# Altium integrated library Altera Cyclone.IntLib: 144 symbols (part 2 of 23)
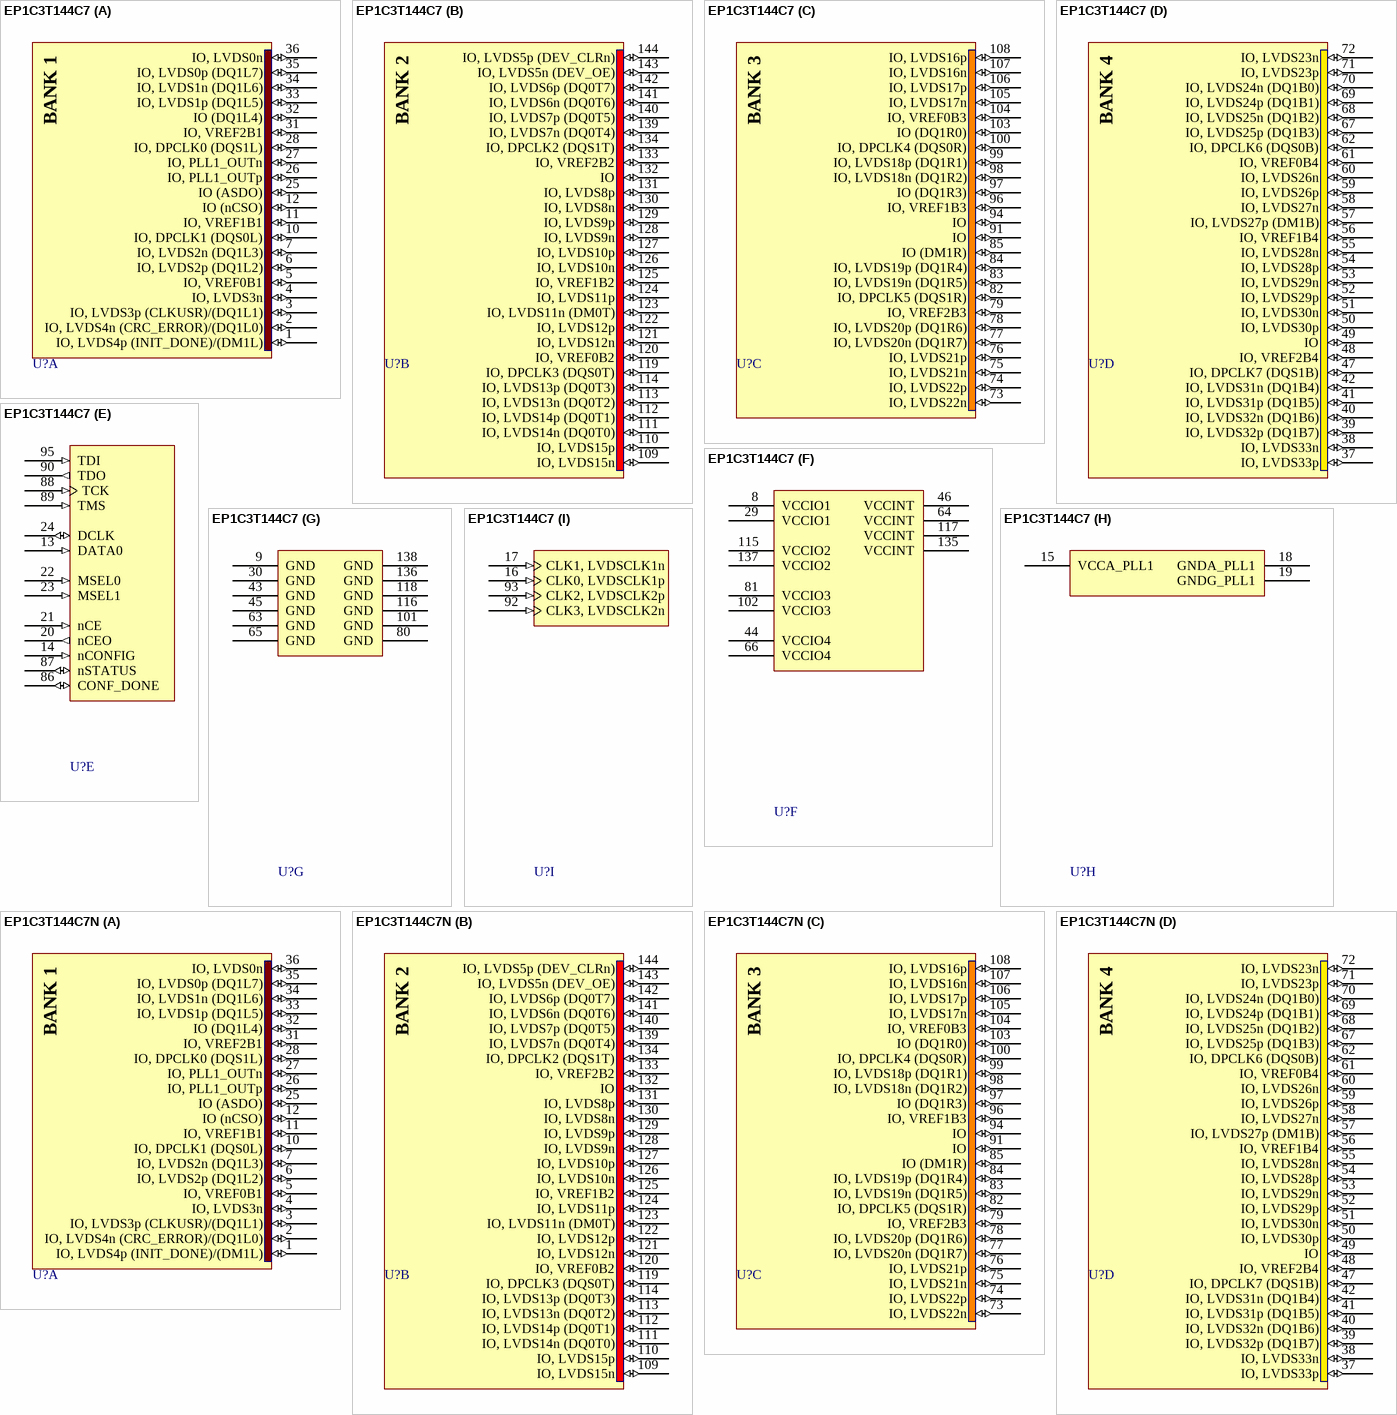
[diagram p154: symbols EP1C3T144C7 to EP1C3T144C7N]

## EP1C3T144C7
designator U?
Cyclone Family, 1.5V FPGA, 104 I/O Pins, 1 x PLL, Commercial Grade, Speed Grade 7; Published: 17-Sep-2003; LatestRevisionDate: 13-Apr-2006; LatestRevisionNote: Pin 2 name fix, IPC-7351 Footprint Added.; DatasheetVersion: May-2008; PackageVersion: ver15.1, May-2008; PackageReference: TQFP144; Publisher: Altium Limited; PackageDescription: 144-Pin Plastic Thin Quad Flat Pack (TQFP144) - Wire Bond; Code_JEDEC: MS-026-BFB; ComponentLink1Description: Manufacturer Link; ComponentLink1URL: http://www.altera.com/products/devices/cyclone/cyc-index.jsp; ComponentLink2Description: Handbook; ComponentLink2URL: http://www.altera.com/literature/hb/cyc/cyc_c5v1.pdf; ComponentLink3Description: Packaging Specification; ComponentLink3URL: http://www.altera.com/literature/ds/dspkg.pdf
footprint TQFP144_N (Thin QFP, 144-Leads, Body 20x20mm, Pitch 0.5mm, IPC Medium Density)
footprint TQFP144_L (Thin QFP, 144-Leads, Body 20x20mm, Pitch 0.5mm, IPC High Density)
footprint TQFP144_M (Thin QFP, 144-Leads, Body 20x20mm, Pitch 0.5mm, IPC Low Density)
3D model EP1C3-TQFP144 (144-Pin Plastic Thin Quad Flat Pack (TQFP144) - Wire Bond)
signal-integrity model 1c (Cyclone)
part A pins: 1 IO, LVDS4p (INIT_DONE)/(DM1L) (io), 2 IO, LVDS4n (CRC_ERROR)/(DQ1L0) (io), 3 IO, LVDS3p (CLKUSR)/(DQ1L1) (io), 4 IO, LVDS3n (io), 5 IO, VREF0B1 (io), 6 IO, LVDS2p (DQ1L2) (io), 7 IO, LVDS2n (DQ1L3) (io), 10 IO, DPCLK1 (DQS0L) (io), 11 IO, VREF1B1 (io), 12 IO (nCSO) (io), 25 IO (ASDO) (io), 26 IO, PLL1_OUTp (io), 27 IO, PLL1_OUTn (io), 28 IO, DPCLK0 (DQS1L) (io), 31 IO, VREF2B1 (io), 32 IO (DQ1L4) (io), 33 IO, LVDS1p (DQ1L5) (io), 34 IO, LVDS1n (DQ1L6) (io), 35 IO, LVDS0p (DQ1L7) (io), 36 IO, LVDS0n (io)
part B pins: 109 IO, LVDS15n (io), 110 IO, LVDS15p (io), 111 IO, LVDS14n (DQ0T0) (io), 112 IO, LVDS14p (DQ0T1) (io), 113 IO, LVDS13n (DQ0T2) (io), 114 IO, LVDS13p (DQ0T3) (io), 119 IO, DPCLK3 (DQS0T) (io), 120 IO, VREF0B2 (io), 121 IO, LVDS12n (io), 122 IO, LVDS12p (io), 123 IO, LVDS11n (DM0T) (io), 124 IO, LVDS11p (io), 125 IO, VREF1B2 (io), 126 IO, LVDS10n (io), 127 IO, LVDS10p (io), 128 IO, LVDS9n (io), 129 IO, LVDS9p (io), 130 IO, LVDS8n (io), 131 IO, LVDS8p (io), 132 IO (io), 133 IO, VREF2B2 (io), 134 IO, DPCLK2 (DQS1T) (io), 139 IO, LVDS7n (DQ0T4) (io), 140 IO, LVDS7p (DQ0T5) (io), 141 IO, LVDS6n (DQ0T6) (io), 142 IO, LVDS6p (DQ0T7) (io), 143 IO, LVDS5n (DEV_OE) (io), 144 IO, LVDS5p (DEV_CLRn) (io)
part C pins: 73 IO, LVDS22n (io), 74 IO, LVDS22p (io), 75 IO, LVDS21n (io), 76 IO, LVDS21p (io), 77 IO, LVDS20n (DQ1R7) (io), 78 IO, LVDS20p (DQ1R6) (io), 79 IO, VREF2B3 (io), 82 IO, DPCLK5 (DQS1R) (io), 83 IO, LVDS19n (DQ1R5) (io), 84 IO, LVDS19p (DQ1R4) (io), 85 IO (DM1R) (io), 91 IO (io), 94 IO (io), 96 IO, VREF1B3 (io), 97 IO (DQ1R3) (io), 98 IO, LVDS18n (DQ1R2) (io), 99 IO, LVDS18p (DQ1R1) (io), 100 IO, DPCLK4 (DQS0R) (io), 103 IO (DQ1R0) (io), 104 IO, VREF0B3 (io), 105 IO, LVDS17n (io), 106 IO, LVDS17p (io), 107 IO, LVDS16n (io), 108 IO, LVDS16p (io)
part D pins: 37 IO, LVDS33p (io), 38 IO, LVDS33n (io), 39 IO, LVDS32p (DQ1B7) (io), 40 IO, LVDS32n (DQ1B6) (io), 41 IO, LVDS31p (DQ1B5) (io), 42 IO, LVDS31n (DQ1B4) (io), 47 IO, DPCLK7 (DQS1B) (io), 48 IO, VREF2B4 (io), 49 IO (io), 50 IO, LVDS30p (io), 51 IO, LVDS30n (io), 52 IO, LVDS29p (io), 53 IO, LVDS29n (io), 54 IO, LVDS28p (io), 55 IO, LVDS28n (io), 56 IO, VREF1B4 (io), 57 IO, LVDS27p (DM1B) (io), 58 IO, LVDS27n (io), 59 IO, LVDS26p (io), 60 IO, LVDS26n (io), 61 IO, VREF0B4 (io), 62 IO, DPCLK6 (DQS0B) (io), 67 IO, LVDS25p (DQ1B3) (io), 68 IO, LVDS25n (DQ1B2) (io), 69 IO, LVDS24p (DQ1B1) (io), 70 IO, LVDS24n (DQ1B0) (io), 71 IO, LVDS23p (io), 72 IO, LVDS23n (io)
part E pins: 13 DATA0 (in), 14 nCONFIG (in), 20 nCEO (out), 21 nCE (in), 22 MSEL0 (in), 23 MSEL1 (in), 24 DCLK (io), 86 CONF_DONE (io), 87 nSTATUS (io), 88 TCK (in), 89 TMS (in), 90 TDO (out), 95 TDI (in)
part F pins: 8 VCCIO1 (power), 29 VCCIO1 (power), 44 VCCIO4 (power), 46 VCCINT (power), 64 VCCINT (power), 66 VCCIO4 (power), 81 VCCIO3 (power), 102 VCCIO3 (power), 115 VCCIO2 (power), 117 VCCINT (power), 135 VCCINT (power), 137 VCCIO2 (power)
part G pins: 9 GND (power), 30 GND (power), 43 GND (power), 45 GND (power), 63 GND (power), 65 GND (power), 80 GND (power), 101 GND (power), 116 GND (power), 118 GND (power), 136 GND (power), 138 GND (power)
part H pins: 15 VCCA_PLL1 (power), 18 GNDA_PLL1 (power), 19 GNDG_PLL1 (power)
part I pins: 16 CLK0, LVDSCLK1p (in), 17 CLK1, LVDSCLK1n (in), 92 CLK3, LVDSCLK2n (in), 93 CLK2, LVDSCLK2p (in)
part A text: BANK 1
part B text: BANK 2
part C text: BANK 3
part D text: BANK 4

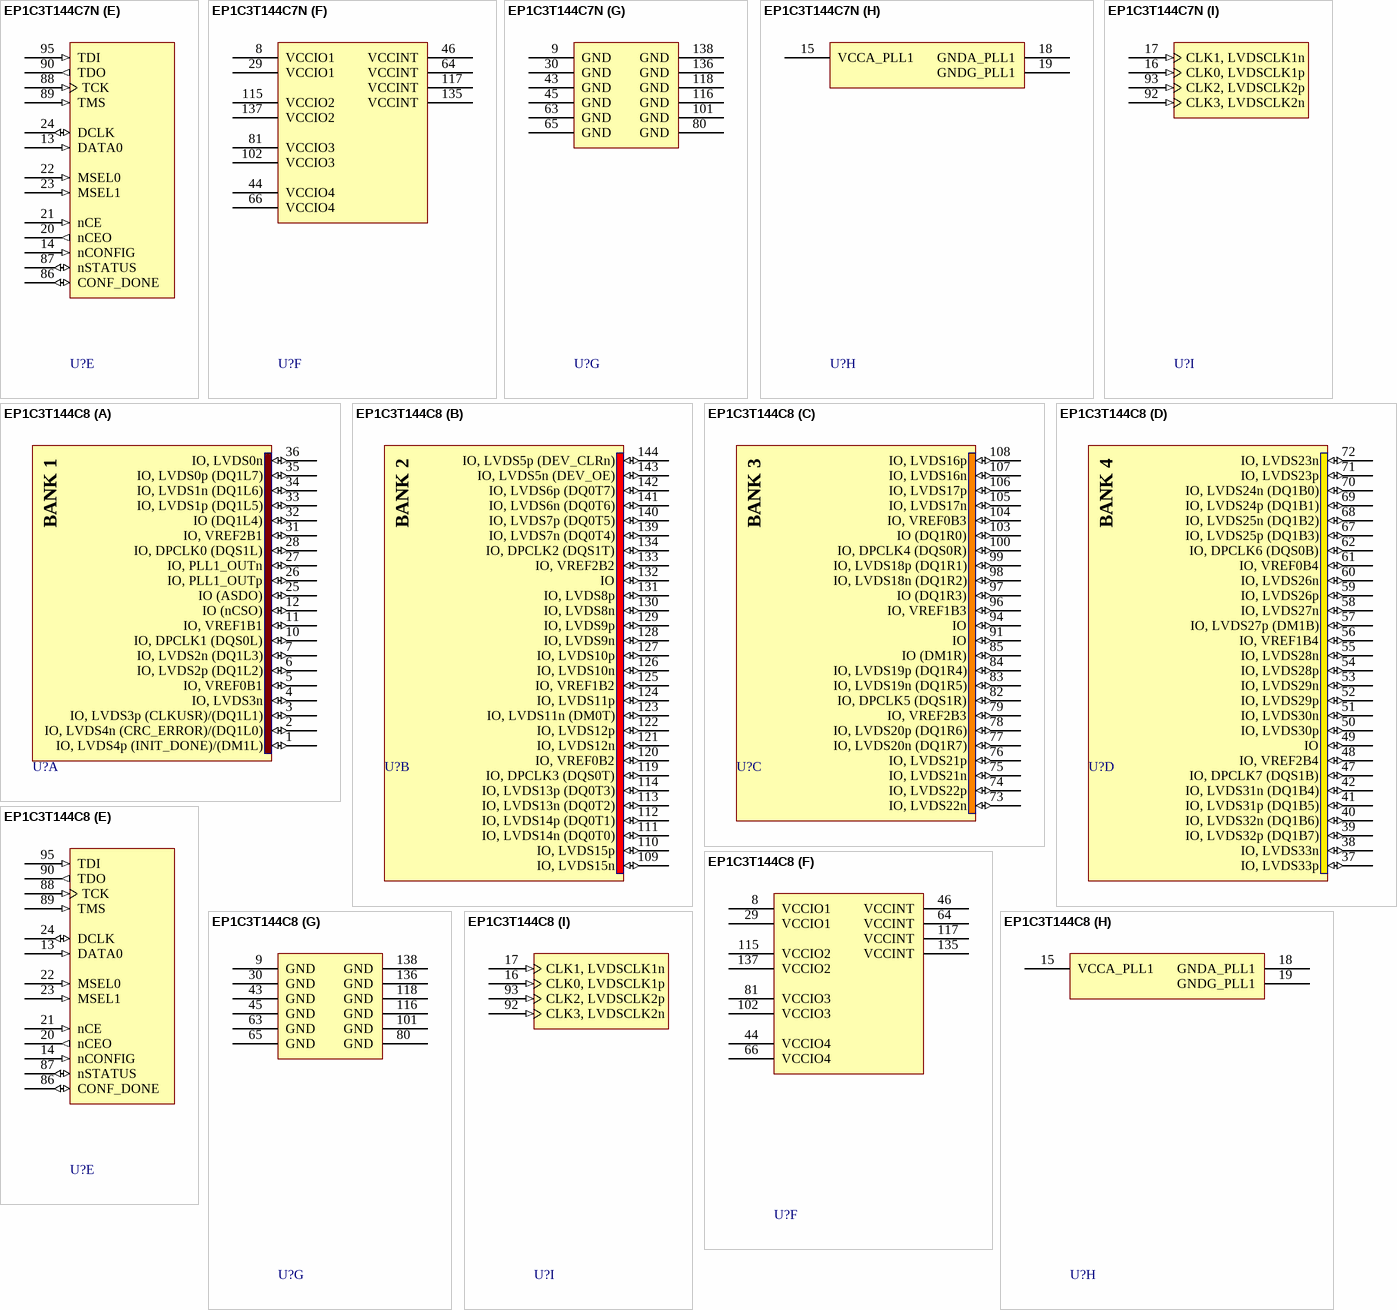
[diagram p7: symbols EP1C3T144C7N to EP1C3T144C8]

## EP1C3T144C7N
designator U?
Cyclone Family, 1.5V FPGA, 104 I/O Pins, 1 x PLL, Commercial Grade, Speed Grade 7, Pb-Free; Published: 4-Mar-2005; LatestRevisionDate: 13-Apr-2006; LatestRevisionNote: Pin 2 name fix, IPC-7351 Footprint Added.; DatasheetVersion: May-2008; PackageVersion: ver15.1, May-2008; PackageReference: TQFP144; Publisher: Altium Limited; PackageDescription: 144-Pin Plastic Thin Quad Flat Pack (TQFP144) - Wire Bond; Code_JEDEC: MS-026-BFB; ComponentLink1Description: Manufacturer Link; ComponentLink1URL: http://www.altera.com/products/devices/cyclone/cyc-index.jsp; ComponentLink2Description: Handbook; ComponentLink2URL: http://www.altera.com/literature/hb/cyc/cyc_c5v1.pdf; ComponentLink3Description: Packaging Specification; ComponentLink3URL: http://www.altera.com/literature/ds/dspkg.pdf
footprint TQFP144_N (Thin QFP, 144-Leads, Body 20x20mm, Pitch 0.5mm, IPC Medium Density)
footprint TQFP144_L (Thin QFP, 144-Leads, Body 20x20mm, Pitch 0.5mm, IPC High Density)
footprint TQFP144_M (Thin QFP, 144-Leads, Body 20x20mm, Pitch 0.5mm, IPC Low Density)
3D model EP1C3-TQFP144 (144-Pin Plastic Thin Quad Flat Pack (TQFP144) - Wire Bond)
signal-integrity model 1c (Cyclone)
part A pins: 1 IO, LVDS4p (INIT_DONE)/(DM1L) (io), 2 IO, LVDS4n (CRC_ERROR)/(DQ1L0) (io), 3 IO, LVDS3p (CLKUSR)/(DQ1L1) (io), 4 IO, LVDS3n (io), 5 IO, VREF0B1 (io), 6 IO, LVDS2p (DQ1L2) (io), 7 IO, LVDS2n (DQ1L3) (io), 10 IO, DPCLK1 (DQS0L) (io), 11 IO, VREF1B1 (io), 12 IO (nCSO) (io), 25 IO (ASDO) (io), 26 IO, PLL1_OUTp (io), 27 IO, PLL1_OUTn (io), 28 IO, DPCLK0 (DQS1L) (io), 31 IO, VREF2B1 (io), 32 IO (DQ1L4) (io), 33 IO, LVDS1p (DQ1L5) (io), 34 IO, LVDS1n (DQ1L6) (io), 35 IO, LVDS0p (DQ1L7) (io), 36 IO, LVDS0n (io)
part B pins: 109 IO, LVDS15n (io), 110 IO, LVDS15p (io), 111 IO, LVDS14n (DQ0T0) (io), 112 IO, LVDS14p (DQ0T1) (io), 113 IO, LVDS13n (DQ0T2) (io), 114 IO, LVDS13p (DQ0T3) (io), 119 IO, DPCLK3 (DQS0T) (io), 120 IO, VREF0B2 (io), 121 IO, LVDS12n (io), 122 IO, LVDS12p (io), 123 IO, LVDS11n (DM0T) (io), 124 IO, LVDS11p (io), 125 IO, VREF1B2 (io), 126 IO, LVDS10n (io), 127 IO, LVDS10p (io), 128 IO, LVDS9n (io), 129 IO, LVDS9p (io), 130 IO, LVDS8n (io), 131 IO, LVDS8p (io), 132 IO (io), 133 IO, VREF2B2 (io), 134 IO, DPCLK2 (DQS1T) (io), 139 IO, LVDS7n (DQ0T4) (io), 140 IO, LVDS7p (DQ0T5) (io), 141 IO, LVDS6n (DQ0T6) (io), 142 IO, LVDS6p (DQ0T7) (io), 143 IO, LVDS5n (DEV_OE) (io), 144 IO, LVDS5p (DEV_CLRn) (io)
part C pins: 73 IO, LVDS22n (io), 74 IO, LVDS22p (io), 75 IO, LVDS21n (io), 76 IO, LVDS21p (io), 77 IO, LVDS20n (DQ1R7) (io), 78 IO, LVDS20p (DQ1R6) (io), 79 IO, VREF2B3 (io), 82 IO, DPCLK5 (DQS1R) (io), 83 IO, LVDS19n (DQ1R5) (io), 84 IO, LVDS19p (DQ1R4) (io), 85 IO (DM1R) (io), 91 IO (io), 94 IO (io), 96 IO, VREF1B3 (io), 97 IO (DQ1R3) (io), 98 IO, LVDS18n (DQ1R2) (io), 99 IO, LVDS18p (DQ1R1) (io), 100 IO, DPCLK4 (DQS0R) (io), 103 IO (DQ1R0) (io), 104 IO, VREF0B3 (io), 105 IO, LVDS17n (io), 106 IO, LVDS17p (io), 107 IO, LVDS16n (io), 108 IO, LVDS16p (io)
part D pins: 37 IO, LVDS33p (io), 38 IO, LVDS33n (io), 39 IO, LVDS32p (DQ1B7) (io), 40 IO, LVDS32n (DQ1B6) (io), 41 IO, LVDS31p (DQ1B5) (io), 42 IO, LVDS31n (DQ1B4) (io), 47 IO, DPCLK7 (DQS1B) (io), 48 IO, VREF2B4 (io), 49 IO (io), 50 IO, LVDS30p (io), 51 IO, LVDS30n (io), 52 IO, LVDS29p (io), 53 IO, LVDS29n (io), 54 IO, LVDS28p (io), 55 IO, LVDS28n (io), 56 IO, VREF1B4 (io), 57 IO, LVDS27p (DM1B) (io), 58 IO, LVDS27n (io), 59 IO, LVDS26p (io), 60 IO, LVDS26n (io), 61 IO, VREF0B4 (io), 62 IO, DPCLK6 (DQS0B) (io), 67 IO, LVDS25p (DQ1B3) (io), 68 IO, LVDS25n (DQ1B2) (io), 69 IO, LVDS24p (DQ1B1) (io), 70 IO, LVDS24n (DQ1B0) (io), 71 IO, LVDS23p (io), 72 IO, LVDS23n (io)
part E pins: 13 DATA0 (in), 14 nCONFIG (in), 20 nCEO (out), 21 nCE (in), 22 MSEL0 (in), 23 MSEL1 (in), 24 DCLK (io), 86 CONF_DONE (io), 87 nSTATUS (io), 88 TCK (in), 89 TMS (in), 90 TDO (out), 95 TDI (in)
part F pins: 8 VCCIO1 (power), 29 VCCIO1 (power), 44 VCCIO4 (power), 46 VCCINT (power), 64 VCCINT (power), 66 VCCIO4 (power), 81 VCCIO3 (power), 102 VCCIO3 (power), 115 VCCIO2 (power), 117 VCCINT (power), 135 VCCINT (power), 137 VCCIO2 (power)
part G pins: 9 GND (power), 30 GND (power), 43 GND (power), 45 GND (power), 63 GND (power), 65 GND (power), 80 GND (power), 101 GND (power), 116 GND (power), 118 GND (power), 136 GND (power), 138 GND (power)
part H pins: 15 VCCA_PLL1 (power), 18 GNDA_PLL1 (power), 19 GNDG_PLL1 (power)
part I pins: 16 CLK0, LVDSCLK1p (in), 17 CLK1, LVDSCLK1n (in), 92 CLK3, LVDSCLK2n (in), 93 CLK2, LVDSCLK2p (in)
part A text: BANK 1
part B text: BANK 2
part C text: BANK 3
part D text: BANK 4

## EP1C3T144C8
designator U?
Cyclone Family, 1.5V FPGA, 104 I/O Pins, 1 x PLL, Commercial Grade, Speed Grade 8; Published: 17-Sep-2003; LatestRevisionDate: 13-Apr-2006; LatestRevisionNote: Pin 2 name fix, IPC-7351 Footprint Added.; DatasheetVersion: May-2008; PackageVersion: ver15.1, May-2008; PackageReference: TQFP144; Publisher: Altium Limited; PackageDescription: 144-Pin Plastic Thin Quad Flat Pack (TQFP144) - Wire Bond; Code_JEDEC: MS-026-BFB; ComponentLink1Description: Manufacturer Link; ComponentLink1URL: http://www.altera.com/products/devices/cyclone/cyc-index.jsp; ComponentLink2Description: Handbook; ComponentLink2URL: http://www.altera.com/literature/hb/cyc/cyc_c5v1.pdf; ComponentLink3Description: Packaging Specification; ComponentLink3URL: http://www.altera.com/literature/ds/dspkg.pdf
footprint TQFP144_N (Thin QFP, 144-Leads, Body 20x20mm, Pitch 0.5mm, IPC Medium Density)
footprint TQFP144_L (Thin QFP, 144-Leads, Body 20x20mm, Pitch 0.5mm, IPC High Density)
footprint TQFP144_M (Thin QFP, 144-Leads, Body 20x20mm, Pitch 0.5mm, IPC Low Density)
3D model EP1C3-TQFP144 (144-Pin Plastic Thin Quad Flat Pack (TQFP144) - Wire Bond)
signal-integrity model 1c (Cyclone)
part A pins: 1 IO, LVDS4p (INIT_DONE)/(DM1L) (io), 2 IO, LVDS4n (CRC_ERROR)/(DQ1L0) (io), 3 IO, LVDS3p (CLKUSR)/(DQ1L1) (io), 4 IO, LVDS3n (io), 5 IO, VREF0B1 (io), 6 IO, LVDS2p (DQ1L2) (io), 7 IO, LVDS2n (DQ1L3) (io), 10 IO, DPCLK1 (DQS0L) (io), 11 IO, VREF1B1 (io), 12 IO (nCSO) (io), 25 IO (ASDO) (io), 26 IO, PLL1_OUTp (io), 27 IO, PLL1_OUTn (io), 28 IO, DPCLK0 (DQS1L) (io), 31 IO, VREF2B1 (io), 32 IO (DQ1L4) (io), 33 IO, LVDS1p (DQ1L5) (io), 34 IO, LVDS1n (DQ1L6) (io), 35 IO, LVDS0p (DQ1L7) (io), 36 IO, LVDS0n (io)
part B pins: 109 IO, LVDS15n (io), 110 IO, LVDS15p (io), 111 IO, LVDS14n (DQ0T0) (io), 112 IO, LVDS14p (DQ0T1) (io), 113 IO, LVDS13n (DQ0T2) (io), 114 IO, LVDS13p (DQ0T3) (io), 119 IO, DPCLK3 (DQS0T) (io), 120 IO, VREF0B2 (io), 121 IO, LVDS12n (io), 122 IO, LVDS12p (io), 123 IO, LVDS11n (DM0T) (io), 124 IO, LVDS11p (io), 125 IO, VREF1B2 (io), 126 IO, LVDS10n (io), 127 IO, LVDS10p (io), 128 IO, LVDS9n (io), 129 IO, LVDS9p (io), 130 IO, LVDS8n (io), 131 IO, LVDS8p (io), 132 IO (io), 133 IO, VREF2B2 (io), 134 IO, DPCLK2 (DQS1T) (io), 139 IO, LVDS7n (DQ0T4) (io), 140 IO, LVDS7p (DQ0T5) (io), 141 IO, LVDS6n (DQ0T6) (io), 142 IO, LVDS6p (DQ0T7) (io), 143 IO, LVDS5n (DEV_OE) (io), 144 IO, LVDS5p (DEV_CLRn) (io)
part C pins: 73 IO, LVDS22n (io), 74 IO, LVDS22p (io), 75 IO, LVDS21n (io), 76 IO, LVDS21p (io), 77 IO, LVDS20n (DQ1R7) (io), 78 IO, LVDS20p (DQ1R6) (io), 79 IO, VREF2B3 (io), 82 IO, DPCLK5 (DQS1R) (io), 83 IO, LVDS19n (DQ1R5) (io), 84 IO, LVDS19p (DQ1R4) (io), 85 IO (DM1R) (io), 91 IO (io), 94 IO (io), 96 IO, VREF1B3 (io), 97 IO (DQ1R3) (io), 98 IO, LVDS18n (DQ1R2) (io), 99 IO, LVDS18p (DQ1R1) (io), 100 IO, DPCLK4 (DQS0R) (io), 103 IO (DQ1R0) (io), 104 IO, VREF0B3 (io), 105 IO, LVDS17n (io), 106 IO, LVDS17p (io), 107 IO, LVDS16n (io), 108 IO, LVDS16p (io)
part D pins: 37 IO, LVDS33p (io), 38 IO, LVDS33n (io), 39 IO, LVDS32p (DQ1B7) (io), 40 IO, LVDS32n (DQ1B6) (io), 41 IO, LVDS31p (DQ1B5) (io), 42 IO, LVDS31n (DQ1B4) (io), 47 IO, DPCLK7 (DQS1B) (io), 48 IO, VREF2B4 (io), 49 IO (io), 50 IO, LVDS30p (io), 51 IO, LVDS30n (io), 52 IO, LVDS29p (io), 53 IO, LVDS29n (io), 54 IO, LVDS28p (io), 55 IO, LVDS28n (io), 56 IO, VREF1B4 (io), 57 IO, LVDS27p (DM1B) (io), 58 IO, LVDS27n (io), 59 IO, LVDS26p (io), 60 IO, LVDS26n (io), 61 IO, VREF0B4 (io), 62 IO, DPCLK6 (DQS0B) (io), 67 IO, LVDS25p (DQ1B3) (io), 68 IO, LVDS25n (DQ1B2) (io), 69 IO, LVDS24p (DQ1B1) (io), 70 IO, LVDS24n (DQ1B0) (io), 71 IO, LVDS23p (io), 72 IO, LVDS23n (io)
part E pins: 13 DATA0 (in), 14 nCONFIG (in), 20 nCEO (out), 21 nCE (in), 22 MSEL0 (in), 23 MSEL1 (in), 24 DCLK (io), 86 CONF_DONE (io), 87 nSTATUS (io), 88 TCK (in), 89 TMS (in), 90 TDO (out), 95 TDI (in)
part F pins: 8 VCCIO1 (power), 29 VCCIO1 (power), 44 VCCIO4 (power), 46 VCCINT (power), 64 VCCINT (power), 66 VCCIO4 (power), 81 VCCIO3 (power), 102 VCCIO3 (power), 115 VCCIO2 (power), 117 VCCINT (power), 135 VCCINT (power), 137 VCCIO2 (power)
part G pins: 9 GND (power), 30 GND (power), 43 GND (power), 45 GND (power), 63 GND (power), 65 GND (power), 80 GND (power), 101 GND (power), 116 GND (power), 118 GND (power), 136 GND (power), 138 GND (power)
part H pins: 15 VCCA_PLL1 (power), 18 GNDA_PLL1 (power), 19 GNDG_PLL1 (power)
part I pins: 16 CLK0, LVDSCLK1p (in), 17 CLK1, LVDSCLK1n (in), 92 CLK3, LVDSCLK2n (in), 93 CLK2, LVDSCLK2p (in)
part A text: BANK 1
part B text: BANK 2
part C text: BANK 3
part D text: BANK 4

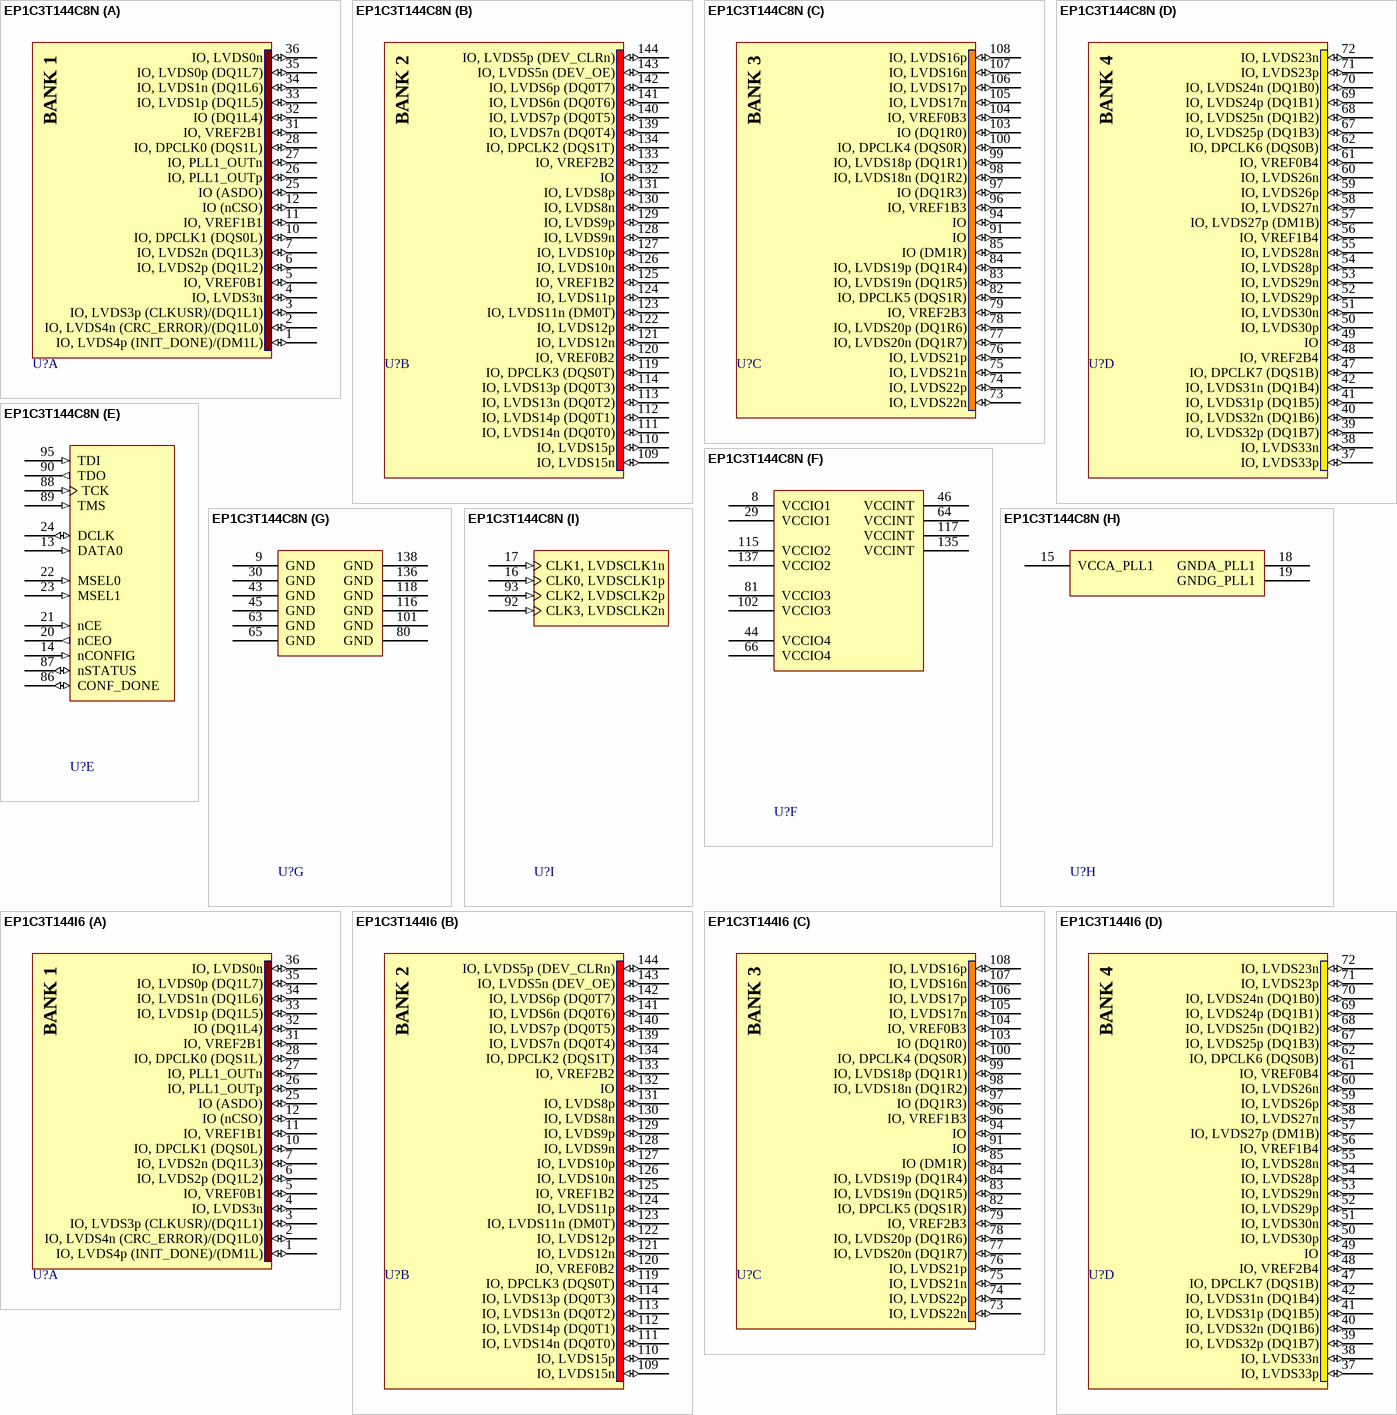
[diagram p8: symbols EP1C3T144C8N to EP1C3T144I6]

## EP1C3T144C8N
designator U?
Cyclone Family, 1.5V FPGA, 104 I/O Pins, 1 x PLL, Commercial Grade, Speed Grade 8, Pb-Free; Published: 4-Mar-2005; LatestRevisionDate: 13-Apr-2006; LatestRevisionNote: Pin 2 name fix, IPC-7351 Footprint Added.; DatasheetVersion: May-2008; PackageVersion: ver15.1, May-2008; PackageReference: TQFP144; Publisher: Altium Limited; PackageDescription: 144-Pin Plastic Thin Quad Flat Pack (TQFP144) - Wire Bond; Code_JEDEC: MS-026-BFB; ComponentLink1Description: Manufacturer Link; ComponentLink1URL: http://www.altera.com/products/devices/cyclone/cyc-index.jsp; ComponentLink2Description: Handbook; ComponentLink2URL: http://www.altera.com/literature/hb/cyc/cyc_c5v1.pdf; ComponentLink3Description: Packaging Specification; ComponentLink3URL: http://www.altera.com/literature/ds/dspkg.pdf
footprint TQFP144_N (Thin QFP, 144-Leads, Body 20x20mm, Pitch 0.5mm, IPC Medium Density)
footprint TQFP144_L (Thin QFP, 144-Leads, Body 20x20mm, Pitch 0.5mm, IPC High Density)
footprint TQFP144_M (Thin QFP, 144-Leads, Body 20x20mm, Pitch 0.5mm, IPC Low Density)
3D model EP1C3-TQFP144 (144-Pin Plastic Thin Quad Flat Pack (TQFP144) - Wire Bond)
signal-integrity model 1c (Cyclone)
part A pins: 1 IO, LVDS4p (INIT_DONE)/(DM1L) (io), 2 IO, LVDS4n (CRC_ERROR)/(DQ1L0) (io), 3 IO, LVDS3p (CLKUSR)/(DQ1L1) (io), 4 IO, LVDS3n (io), 5 IO, VREF0B1 (io), 6 IO, LVDS2p (DQ1L2) (io), 7 IO, LVDS2n (DQ1L3) (io), 10 IO, DPCLK1 (DQS0L) (io), 11 IO, VREF1B1 (io), 12 IO (nCSO) (io), 25 IO (ASDO) (io), 26 IO, PLL1_OUTp (io), 27 IO, PLL1_OUTn (io), 28 IO, DPCLK0 (DQS1L) (io), 31 IO, VREF2B1 (io), 32 IO (DQ1L4) (io), 33 IO, LVDS1p (DQ1L5) (io), 34 IO, LVDS1n (DQ1L6) (io), 35 IO, LVDS0p (DQ1L7) (io), 36 IO, LVDS0n (io)
part B pins: 109 IO, LVDS15n (io), 110 IO, LVDS15p (io), 111 IO, LVDS14n (DQ0T0) (io), 112 IO, LVDS14p (DQ0T1) (io), 113 IO, LVDS13n (DQ0T2) (io), 114 IO, LVDS13p (DQ0T3) (io), 119 IO, DPCLK3 (DQS0T) (io), 120 IO, VREF0B2 (io), 121 IO, LVDS12n (io), 122 IO, LVDS12p (io), 123 IO, LVDS11n (DM0T) (io), 124 IO, LVDS11p (io), 125 IO, VREF1B2 (io), 126 IO, LVDS10n (io), 127 IO, LVDS10p (io), 128 IO, LVDS9n (io), 129 IO, LVDS9p (io), 130 IO, LVDS8n (io), 131 IO, LVDS8p (io), 132 IO (io), 133 IO, VREF2B2 (io), 134 IO, DPCLK2 (DQS1T) (io), 139 IO, LVDS7n (DQ0T4) (io), 140 IO, LVDS7p (DQ0T5) (io), 141 IO, LVDS6n (DQ0T6) (io), 142 IO, LVDS6p (DQ0T7) (io), 143 IO, LVDS5n (DEV_OE) (io), 144 IO, LVDS5p (DEV_CLRn) (io)
part C pins: 73 IO, LVDS22n (io), 74 IO, LVDS22p (io), 75 IO, LVDS21n (io), 76 IO, LVDS21p (io), 77 IO, LVDS20n (DQ1R7) (io), 78 IO, LVDS20p (DQ1R6) (io), 79 IO, VREF2B3 (io), 82 IO, DPCLK5 (DQS1R) (io), 83 IO, LVDS19n (DQ1R5) (io), 84 IO, LVDS19p (DQ1R4) (io), 85 IO (DM1R) (io), 91 IO (io), 94 IO (io), 96 IO, VREF1B3 (io), 97 IO (DQ1R3) (io), 98 IO, LVDS18n (DQ1R2) (io), 99 IO, LVDS18p (DQ1R1) (io), 100 IO, DPCLK4 (DQS0R) (io), 103 IO (DQ1R0) (io), 104 IO, VREF0B3 (io), 105 IO, LVDS17n (io), 106 IO, LVDS17p (io), 107 IO, LVDS16n (io), 108 IO, LVDS16p (io)
part D pins: 37 IO, LVDS33p (io), 38 IO, LVDS33n (io), 39 IO, LVDS32p (DQ1B7) (io), 40 IO, LVDS32n (DQ1B6) (io), 41 IO, LVDS31p (DQ1B5) (io), 42 IO, LVDS31n (DQ1B4) (io), 47 IO, DPCLK7 (DQS1B) (io), 48 IO, VREF2B4 (io), 49 IO (io), 50 IO, LVDS30p (io), 51 IO, LVDS30n (io), 52 IO, LVDS29p (io), 53 IO, LVDS29n (io), 54 IO, LVDS28p (io), 55 IO, LVDS28n (io), 56 IO, VREF1B4 (io), 57 IO, LVDS27p (DM1B) (io), 58 IO, LVDS27n (io), 59 IO, LVDS26p (io), 60 IO, LVDS26n (io), 61 IO, VREF0B4 (io), 62 IO, DPCLK6 (DQS0B) (io), 67 IO, LVDS25p (DQ1B3) (io), 68 IO, LVDS25n (DQ1B2) (io), 69 IO, LVDS24p (DQ1B1) (io), 70 IO, LVDS24n (DQ1B0) (io), 71 IO, LVDS23p (io), 72 IO, LVDS23n (io)
part E pins: 13 DATA0 (in), 14 nCONFIG (in), 20 nCEO (out), 21 nCE (in), 22 MSEL0 (in), 23 MSEL1 (in), 24 DCLK (io), 86 CONF_DONE (io), 87 nSTATUS (io), 88 TCK (in), 89 TMS (in), 90 TDO (out), 95 TDI (in)
part F pins: 8 VCCIO1 (power), 29 VCCIO1 (power), 44 VCCIO4 (power), 46 VCCINT (power), 64 VCCINT (power), 66 VCCIO4 (power), 81 VCCIO3 (power), 102 VCCIO3 (power), 115 VCCIO2 (power), 117 VCCINT (power), 135 VCCINT (power), 137 VCCIO2 (power)
part G pins: 9 GND (power), 30 GND (power), 43 GND (power), 45 GND (power), 63 GND (power), 65 GND (power), 80 GND (power), 101 GND (power), 116 GND (power), 118 GND (power), 136 GND (power), 138 GND (power)
part H pins: 15 VCCA_PLL1 (power), 18 GNDA_PLL1 (power), 19 GNDG_PLL1 (power)
part I pins: 16 CLK0, LVDSCLK1p (in), 17 CLK1, LVDSCLK1n (in), 92 CLK3, LVDSCLK2n (in), 93 CLK2, LVDSCLK2p (in)
part A text: BANK 1
part B text: BANK 2
part C text: BANK 3
part D text: BANK 4

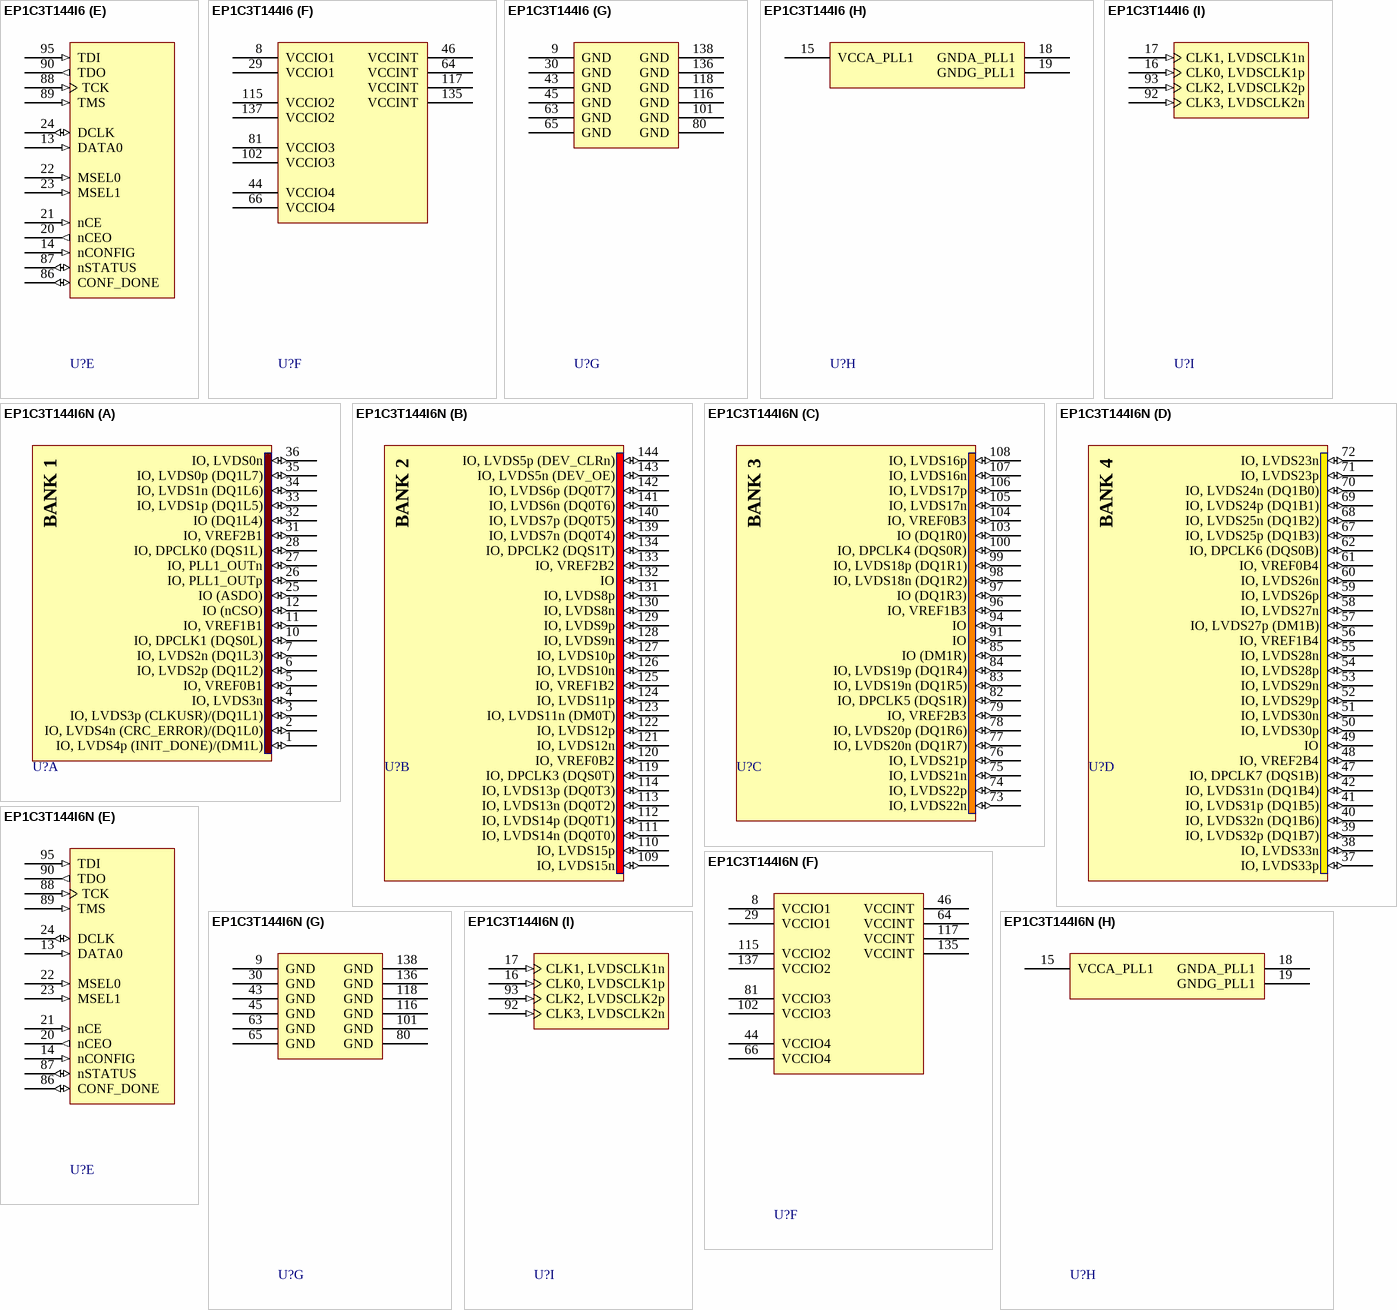
[diagram p9: symbols EP1C3T144I6 to EP1C3T144I6N]

## EP1C3T144I6
designator U?
Cyclone Family, 1.5V FPGA, 104 I/O Pins, 1 x PLL, Industrial Grade, Speed Grade 6; Published: 17-Sep-2003; LatestRevisionDate: 13-Apr-2006; LatestRevisionNote: Pin 2 name fix, IPC-7351 Footprint Added.; DatasheetVersion: May-2008; PackageVersion: ver15.1, May-2008; PackageReference: TQFP144; Publisher: Altium Limited; PackageDescription: 144-Pin Plastic Thin Quad Flat Pack (TQFP144) - Wire Bond; Code_JEDEC: MS-026-BFB; ComponentLink1Description: Manufacturer Link; ComponentLink1URL: http://www.altera.com/products/devices/cyclone/cyc-index.jsp; ComponentLink2Description: Handbook; ComponentLink2URL: http://www.altera.com/literature/hb/cyc/cyc_c5v1.pdf; ComponentLink3Description: Packaging Specification; ComponentLink3URL: http://www.altera.com/literature/ds/dspkg.pdf
footprint TQFP144_N (Thin QFP, 144-Leads, Body 20x20mm, Pitch 0.5mm, IPC Medium Density)
footprint TQFP144_L (Thin QFP, 144-Leads, Body 20x20mm, Pitch 0.5mm, IPC High Density)
footprint TQFP144_M (Thin QFP, 144-Leads, Body 20x20mm, Pitch 0.5mm, IPC Low Density)
3D model EP1C3-TQFP144 (144-Pin Plastic Thin Quad Flat Pack (TQFP144) - Wire Bond)
signal-integrity model 1c (Cyclone)
part A pins: 1 IO, LVDS4p (INIT_DONE)/(DM1L) (io), 2 IO, LVDS4n (CRC_ERROR)/(DQ1L0) (io), 3 IO, LVDS3p (CLKUSR)/(DQ1L1) (io), 4 IO, LVDS3n (io), 5 IO, VREF0B1 (io), 6 IO, LVDS2p (DQ1L2) (io), 7 IO, LVDS2n (DQ1L3) (io), 10 IO, DPCLK1 (DQS0L) (io), 11 IO, VREF1B1 (io), 12 IO (nCSO) (io), 25 IO (ASDO) (io), 26 IO, PLL1_OUTp (io), 27 IO, PLL1_OUTn (io), 28 IO, DPCLK0 (DQS1L) (io), 31 IO, VREF2B1 (io), 32 IO (DQ1L4) (io), 33 IO, LVDS1p (DQ1L5) (io), 34 IO, LVDS1n (DQ1L6) (io), 35 IO, LVDS0p (DQ1L7) (io), 36 IO, LVDS0n (io)
part B pins: 109 IO, LVDS15n (io), 110 IO, LVDS15p (io), 111 IO, LVDS14n (DQ0T0) (io), 112 IO, LVDS14p (DQ0T1) (io), 113 IO, LVDS13n (DQ0T2) (io), 114 IO, LVDS13p (DQ0T3) (io), 119 IO, DPCLK3 (DQS0T) (io), 120 IO, VREF0B2 (io), 121 IO, LVDS12n (io), 122 IO, LVDS12p (io), 123 IO, LVDS11n (DM0T) (io), 124 IO, LVDS11p (io), 125 IO, VREF1B2 (io), 126 IO, LVDS10n (io), 127 IO, LVDS10p (io), 128 IO, LVDS9n (io), 129 IO, LVDS9p (io), 130 IO, LVDS8n (io), 131 IO, LVDS8p (io), 132 IO (io), 133 IO, VREF2B2 (io), 134 IO, DPCLK2 (DQS1T) (io), 139 IO, LVDS7n (DQ0T4) (io), 140 IO, LVDS7p (DQ0T5) (io), 141 IO, LVDS6n (DQ0T6) (io), 142 IO, LVDS6p (DQ0T7) (io), 143 IO, LVDS5n (DEV_OE) (io), 144 IO, LVDS5p (DEV_CLRn) (io)
part C pins: 73 IO, LVDS22n (io), 74 IO, LVDS22p (io), 75 IO, LVDS21n (io), 76 IO, LVDS21p (io), 77 IO, LVDS20n (DQ1R7) (io), 78 IO, LVDS20p (DQ1R6) (io), 79 IO, VREF2B3 (io), 82 IO, DPCLK5 (DQS1R) (io), 83 IO, LVDS19n (DQ1R5) (io), 84 IO, LVDS19p (DQ1R4) (io), 85 IO (DM1R) (io), 91 IO (io), 94 IO (io), 96 IO, VREF1B3 (io), 97 IO (DQ1R3) (io), 98 IO, LVDS18n (DQ1R2) (io), 99 IO, LVDS18p (DQ1R1) (io), 100 IO, DPCLK4 (DQS0R) (io), 103 IO (DQ1R0) (io), 104 IO, VREF0B3 (io), 105 IO, LVDS17n (io), 106 IO, LVDS17p (io), 107 IO, LVDS16n (io), 108 IO, LVDS16p (io)
part D pins: 37 IO, LVDS33p (io), 38 IO, LVDS33n (io), 39 IO, LVDS32p (DQ1B7) (io), 40 IO, LVDS32n (DQ1B6) (io), 41 IO, LVDS31p (DQ1B5) (io), 42 IO, LVDS31n (DQ1B4) (io), 47 IO, DPCLK7 (DQS1B) (io), 48 IO, VREF2B4 (io), 49 IO (io), 50 IO, LVDS30p (io), 51 IO, LVDS30n (io), 52 IO, LVDS29p (io), 53 IO, LVDS29n (io), 54 IO, LVDS28p (io), 55 IO, LVDS28n (io), 56 IO, VREF1B4 (io), 57 IO, LVDS27p (DM1B) (io), 58 IO, LVDS27n (io), 59 IO, LVDS26p (io), 60 IO, LVDS26n (io), 61 IO, VREF0B4 (io), 62 IO, DPCLK6 (DQS0B) (io), 67 IO, LVDS25p (DQ1B3) (io), 68 IO, LVDS25n (DQ1B2) (io), 69 IO, LVDS24p (DQ1B1) (io), 70 IO, LVDS24n (DQ1B0) (io), 71 IO, LVDS23p (io), 72 IO, LVDS23n (io)
part E pins: 13 DATA0 (in), 14 nCONFIG (in), 20 nCEO (out), 21 nCE (in), 22 MSEL0 (in), 23 MSEL1 (in), 24 DCLK (io), 86 CONF_DONE (io), 87 nSTATUS (io), 88 TCK (in), 89 TMS (in), 90 TDO (out), 95 TDI (in)
part F pins: 8 VCCIO1 (power), 29 VCCIO1 (power), 44 VCCIO4 (power), 46 VCCINT (power), 64 VCCINT (power), 66 VCCIO4 (power), 81 VCCIO3 (power), 102 VCCIO3 (power), 115 VCCIO2 (power), 117 VCCINT (power), 135 VCCINT (power), 137 VCCIO2 (power)
part G pins: 9 GND (power), 30 GND (power), 43 GND (power), 45 GND (power), 63 GND (power), 65 GND (power), 80 GND (power), 101 GND (power), 116 GND (power), 118 GND (power), 136 GND (power), 138 GND (power)
part H pins: 15 VCCA_PLL1 (power), 18 GNDA_PLL1 (power), 19 GNDG_PLL1 (power)
part I pins: 16 CLK0, LVDSCLK1p (in), 17 CLK1, LVDSCLK1n (in), 92 CLK3, LVDSCLK2n (in), 93 CLK2, LVDSCLK2p (in)
part A text: BANK 1
part B text: BANK 2
part C text: BANK 3
part D text: BANK 4

## EP1C3T144I6N
designator U?
Cyclone Family, 1.5V FPGA, 104 I/O Pins, 1 x PLL, Industrial Grade, Speed Grade 6, Pb-Free; Published: 18-Aug-2005; LatestRevisionDate: 13-Apr-2006; LatestRevisionNote: Pin 2 name fix, IPC-7351 Footprint Added.; DatasheetVersion: May-2008; PackageVersion: ver15.1, May-2008; PackageReference: TQFP144; Publisher: Altium Limited; PackageDescription: 144-Pin Plastic Thin Quad Flat Pack (TQFP144) - Wire Bond; Code_JEDEC: MS-026-BFB; ComponentLink1Description: Manufacturer Link; ComponentLink1URL: http://www.altera.com/products/devices/cyclone/cyc-index.jsp; ComponentLink2Description: Handbook; ComponentLink2URL: http://www.altera.com/literature/hb/cyc/cyc_c5v1.pdf; ComponentLink3Description: Packaging Specification; ComponentLink3URL: http://www.altera.com/literature/ds/dspkg.pdf
footprint TQFP144_N (Thin QFP, 144-Leads, Body 20x20mm, Pitch 0.5mm, IPC Medium Density)
footprint TQFP144_L (Thin QFP, 144-Leads, Body 20x20mm, Pitch 0.5mm, IPC High Density)
footprint TQFP144_M (Thin QFP, 144-Leads, Body 20x20mm, Pitch 0.5mm, IPC Low Density)
3D model EP1C3-TQFP144 (144-Pin Plastic Thin Quad Flat Pack (TQFP144) - Wire Bond)
signal-integrity model 1c (Cyclone)
part A pins: 1 IO, LVDS4p (INIT_DONE)/(DM1L) (io), 2 IO, LVDS4n (CRC_ERROR)/(DQ1L0) (io), 3 IO, LVDS3p (CLKUSR)/(DQ1L1) (io), 4 IO, LVDS3n (io), 5 IO, VREF0B1 (io), 6 IO, LVDS2p (DQ1L2) (io), 7 IO, LVDS2n (DQ1L3) (io), 10 IO, DPCLK1 (DQS0L) (io), 11 IO, VREF1B1 (io), 12 IO (nCSO) (io), 25 IO (ASDO) (io), 26 IO, PLL1_OUTp (io), 27 IO, PLL1_OUTn (io), 28 IO, DPCLK0 (DQS1L) (io), 31 IO, VREF2B1 (io), 32 IO (DQ1L4) (io), 33 IO, LVDS1p (DQ1L5) (io), 34 IO, LVDS1n (DQ1L6) (io), 35 IO, LVDS0p (DQ1L7) (io), 36 IO, LVDS0n (io)
part B pins: 109 IO, LVDS15n (io), 110 IO, LVDS15p (io), 111 IO, LVDS14n (DQ0T0) (io), 112 IO, LVDS14p (DQ0T1) (io), 113 IO, LVDS13n (DQ0T2) (io), 114 IO, LVDS13p (DQ0T3) (io), 119 IO, DPCLK3 (DQS0T) (io), 120 IO, VREF0B2 (io), 121 IO, LVDS12n (io), 122 IO, LVDS12p (io), 123 IO, LVDS11n (DM0T) (io), 124 IO, LVDS11p (io), 125 IO, VREF1B2 (io), 126 IO, LVDS10n (io), 127 IO, LVDS10p (io), 128 IO, LVDS9n (io), 129 IO, LVDS9p (io), 130 IO, LVDS8n (io), 131 IO, LVDS8p (io), 132 IO (io), 133 IO, VREF2B2 (io), 134 IO, DPCLK2 (DQS1T) (io), 139 IO, LVDS7n (DQ0T4) (io), 140 IO, LVDS7p (DQ0T5) (io), 141 IO, LVDS6n (DQ0T6) (io), 142 IO, LVDS6p (DQ0T7) (io), 143 IO, LVDS5n (DEV_OE) (io), 144 IO, LVDS5p (DEV_CLRn) (io)
part C pins: 73 IO, LVDS22n (io), 74 IO, LVDS22p (io), 75 IO, LVDS21n (io), 76 IO, LVDS21p (io), 77 IO, LVDS20n (DQ1R7) (io), 78 IO, LVDS20p (DQ1R6) (io), 79 IO, VREF2B3 (io), 82 IO, DPCLK5 (DQS1R) (io), 83 IO, LVDS19n (DQ1R5) (io), 84 IO, LVDS19p (DQ1R4) (io), 85 IO (DM1R) (io), 91 IO (io), 94 IO (io), 96 IO, VREF1B3 (io), 97 IO (DQ1R3) (io), 98 IO, LVDS18n (DQ1R2) (io), 99 IO, LVDS18p (DQ1R1) (io), 100 IO, DPCLK4 (DQS0R) (io), 103 IO (DQ1R0) (io), 104 IO, VREF0B3 (io), 105 IO, LVDS17n (io), 106 IO, LVDS17p (io), 107 IO, LVDS16n (io), 108 IO, LVDS16p (io)
part D pins: 37 IO, LVDS33p (io), 38 IO, LVDS33n (io), 39 IO, LVDS32p (DQ1B7) (io), 40 IO, LVDS32n (DQ1B6) (io), 41 IO, LVDS31p (DQ1B5) (io), 42 IO, LVDS31n (DQ1B4) (io), 47 IO, DPCLK7 (DQS1B) (io), 48 IO, VREF2B4 (io), 49 IO (io), 50 IO, LVDS30p (io), 51 IO, LVDS30n (io), 52 IO, LVDS29p (io), 53 IO, LVDS29n (io), 54 IO, LVDS28p (io), 55 IO, LVDS28n (io), 56 IO, VREF1B4 (io), 57 IO, LVDS27p (DM1B) (io), 58 IO, LVDS27n (io), 59 IO, LVDS26p (io), 60 IO, LVDS26n (io), 61 IO, VREF0B4 (io), 62 IO, DPCLK6 (DQS0B) (io), 67 IO, LVDS25p (DQ1B3) (io), 68 IO, LVDS25n (DQ1B2) (io), 69 IO, LVDS24p (DQ1B1) (io), 70 IO, LVDS24n (DQ1B0) (io), 71 IO, LVDS23p (io), 72 IO, LVDS23n (io)
part E pins: 13 DATA0 (in), 14 nCONFIG (in), 20 nCEO (out), 21 nCE (in), 22 MSEL0 (in), 23 MSEL1 (in), 24 DCLK (io), 86 CONF_DONE (io), 87 nSTATUS (io), 88 TCK (in), 89 TMS (in), 90 TDO (out), 95 TDI (in)
part F pins: 8 VCCIO1 (power), 29 VCCIO1 (power), 44 VCCIO4 (power), 46 VCCINT (power), 64 VCCINT (power), 66 VCCIO4 (power), 81 VCCIO3 (power), 102 VCCIO3 (power), 115 VCCIO2 (power), 117 VCCINT (power), 135 VCCINT (power), 137 VCCIO2 (power)
part G pins: 9 GND (power), 30 GND (power), 43 GND (power), 45 GND (power), 63 GND (power), 65 GND (power), 80 GND (power), 101 GND (power), 116 GND (power), 118 GND (power), 136 GND (power), 138 GND (power)
part H pins: 15 VCCA_PLL1 (power), 18 GNDA_PLL1 (power), 19 GNDG_PLL1 (power)
part I pins: 16 CLK0, LVDSCLK1p (in), 17 CLK1, LVDSCLK1n (in), 92 CLK3, LVDSCLK2n (in), 93 CLK2, LVDSCLK2p (in)
part A text: BANK 1
part B text: BANK 2
part C text: BANK 3
part D text: BANK 4

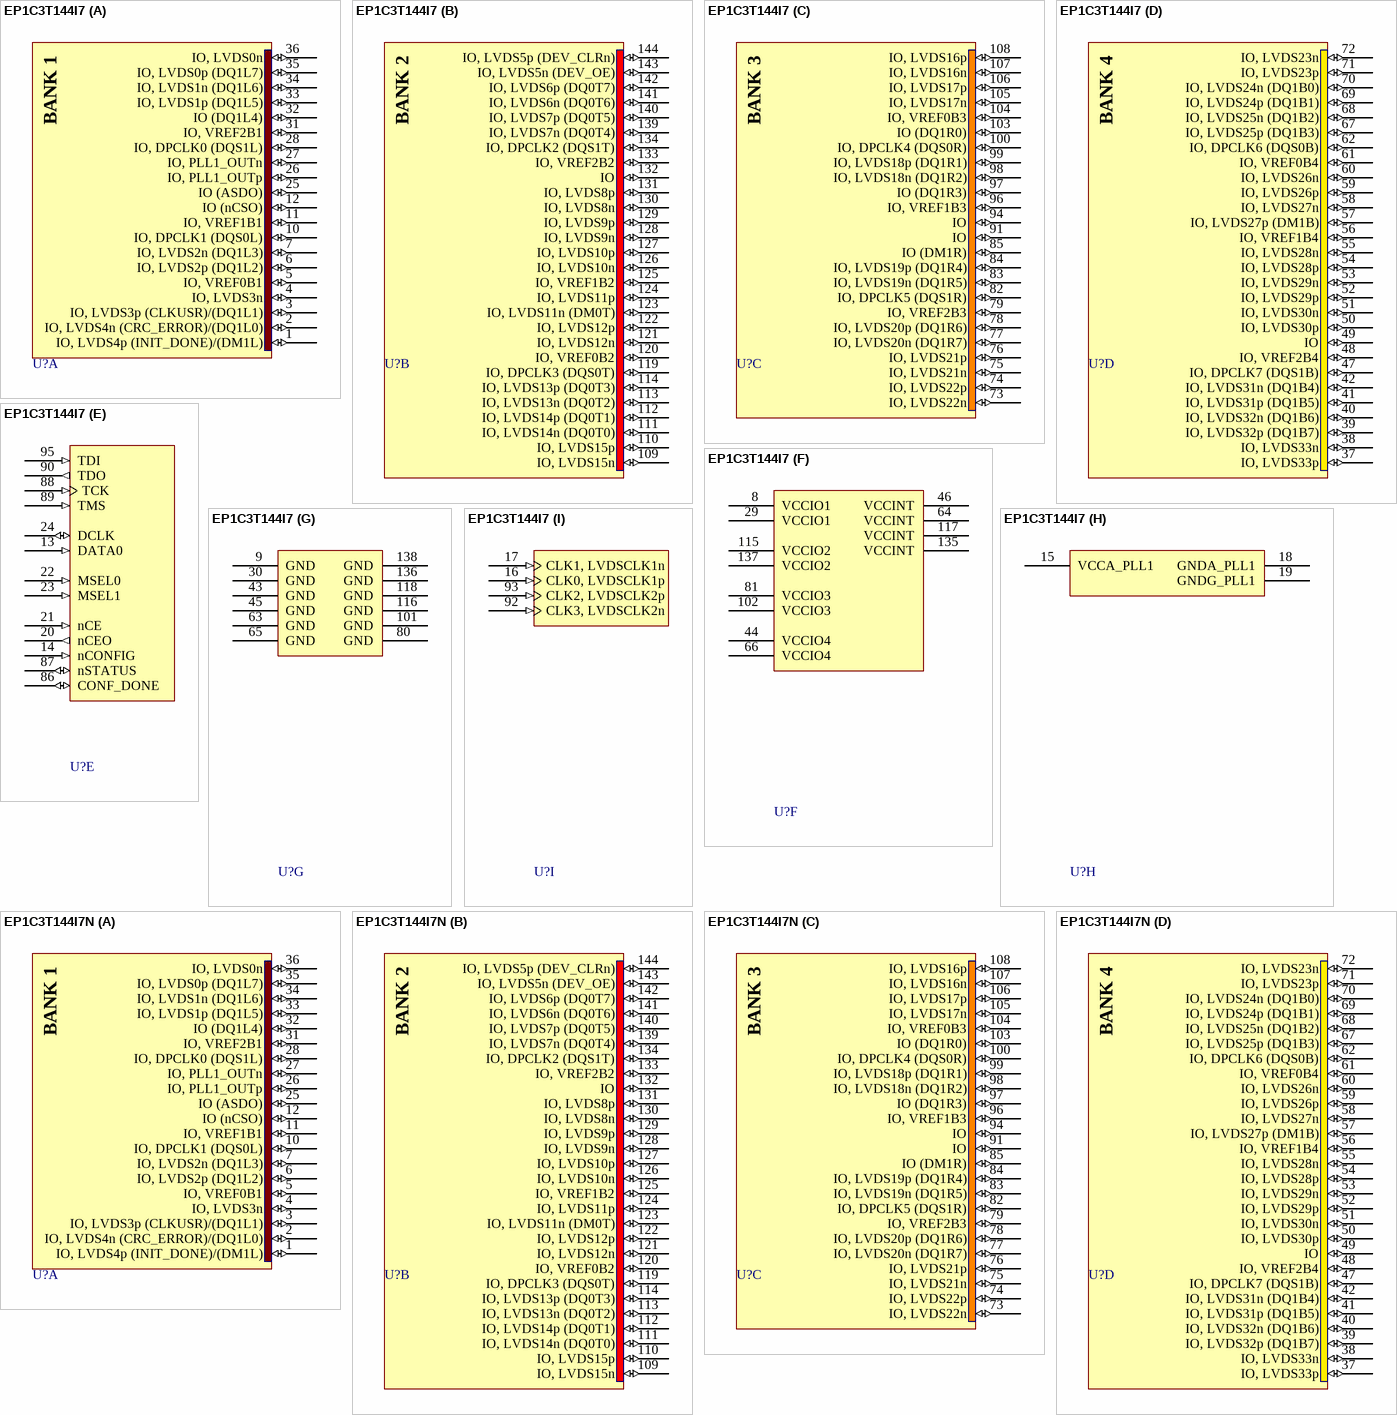
[diagram p10: symbols EP1C3T144I7 to EP1C3T144I7N]

## EP1C3T144I7
designator U?
Cyclone Family, 1.5V FPGA, 104 I/O Pins, 1 x PLL, Industrial Grade, Speed Grade 7; Published: 17-Sep-2003; LatestRevisionDate: 13-Apr-2006; LatestRevisionNote: Pin 2 name fix, IPC-7351 Footprint Added.; DatasheetVersion: May-2008; PackageVersion: ver15.1, May-2008; PackageReference: TQFP144; Publisher: Altium Limited; PackageDescription: 144-Pin Plastic Thin Quad Flat Pack (TQFP144) - Wire Bond; Code_JEDEC: MS-026-BFB; ComponentLink1Description: Manufacturer Link; ComponentLink1URL: http://www.altera.com/products/devices/cyclone/cyc-index.jsp; ComponentLink2Description: Handbook; ComponentLink2URL: http://www.altera.com/literature/hb/cyc/cyc_c5v1.pdf; ComponentLink3Description: Packaging Specification; ComponentLink3URL: http://www.altera.com/literature/ds/dspkg.pdf
footprint TQFP144_N (Thin QFP, 144-Leads, Body 20x20mm, Pitch 0.5mm, IPC Medium Density)
footprint TQFP144_L (Thin QFP, 144-Leads, Body 20x20mm, Pitch 0.5mm, IPC High Density)
footprint TQFP144_M (Thin QFP, 144-Leads, Body 20x20mm, Pitch 0.5mm, IPC Low Density)
3D model EP1C3-TQFP144 (144-Pin Plastic Thin Quad Flat Pack (TQFP144) - Wire Bond)
signal-integrity model 1c (Cyclone)
part A pins: 1 IO, LVDS4p (INIT_DONE)/(DM1L) (io), 2 IO, LVDS4n (CRC_ERROR)/(DQ1L0) (io), 3 IO, LVDS3p (CLKUSR)/(DQ1L1) (io), 4 IO, LVDS3n (io), 5 IO, VREF0B1 (io), 6 IO, LVDS2p (DQ1L2) (io), 7 IO, LVDS2n (DQ1L3) (io), 10 IO, DPCLK1 (DQS0L) (io), 11 IO, VREF1B1 (io), 12 IO (nCSO) (io), 25 IO (ASDO) (io), 26 IO, PLL1_OUTp (io), 27 IO, PLL1_OUTn (io), 28 IO, DPCLK0 (DQS1L) (io), 31 IO, VREF2B1 (io), 32 IO (DQ1L4) (io), 33 IO, LVDS1p (DQ1L5) (io), 34 IO, LVDS1n (DQ1L6) (io), 35 IO, LVDS0p (DQ1L7) (io), 36 IO, LVDS0n (io)
part B pins: 109 IO, LVDS15n (io), 110 IO, LVDS15p (io), 111 IO, LVDS14n (DQ0T0) (io), 112 IO, LVDS14p (DQ0T1) (io), 113 IO, LVDS13n (DQ0T2) (io), 114 IO, LVDS13p (DQ0T3) (io), 119 IO, DPCLK3 (DQS0T) (io), 120 IO, VREF0B2 (io), 121 IO, LVDS12n (io), 122 IO, LVDS12p (io), 123 IO, LVDS11n (DM0T) (io), 124 IO, LVDS11p (io), 125 IO, VREF1B2 (io), 126 IO, LVDS10n (io), 127 IO, LVDS10p (io), 128 IO, LVDS9n (io), 129 IO, LVDS9p (io), 130 IO, LVDS8n (io), 131 IO, LVDS8p (io), 132 IO (io), 133 IO, VREF2B2 (io), 134 IO, DPCLK2 (DQS1T) (io), 139 IO, LVDS7n (DQ0T4) (io), 140 IO, LVDS7p (DQ0T5) (io), 141 IO, LVDS6n (DQ0T6) (io), 142 IO, LVDS6p (DQ0T7) (io), 143 IO, LVDS5n (DEV_OE) (io), 144 IO, LVDS5p (DEV_CLRn) (io)
part C pins: 73 IO, LVDS22n (io), 74 IO, LVDS22p (io), 75 IO, LVDS21n (io), 76 IO, LVDS21p (io), 77 IO, LVDS20n (DQ1R7) (io), 78 IO, LVDS20p (DQ1R6) (io), 79 IO, VREF2B3 (io), 82 IO, DPCLK5 (DQS1R) (io), 83 IO, LVDS19n (DQ1R5) (io), 84 IO, LVDS19p (DQ1R4) (io), 85 IO (DM1R) (io), 91 IO (io), 94 IO (io), 96 IO, VREF1B3 (io), 97 IO (DQ1R3) (io), 98 IO, LVDS18n (DQ1R2) (io), 99 IO, LVDS18p (DQ1R1) (io), 100 IO, DPCLK4 (DQS0R) (io), 103 IO (DQ1R0) (io), 104 IO, VREF0B3 (io), 105 IO, LVDS17n (io), 106 IO, LVDS17p (io), 107 IO, LVDS16n (io), 108 IO, LVDS16p (io)
part D pins: 37 IO, LVDS33p (io), 38 IO, LVDS33n (io), 39 IO, LVDS32p (DQ1B7) (io), 40 IO, LVDS32n (DQ1B6) (io), 41 IO, LVDS31p (DQ1B5) (io), 42 IO, LVDS31n (DQ1B4) (io), 47 IO, DPCLK7 (DQS1B) (io), 48 IO, VREF2B4 (io), 49 IO (io), 50 IO, LVDS30p (io), 51 IO, LVDS30n (io), 52 IO, LVDS29p (io), 53 IO, LVDS29n (io), 54 IO, LVDS28p (io), 55 IO, LVDS28n (io), 56 IO, VREF1B4 (io), 57 IO, LVDS27p (DM1B) (io), 58 IO, LVDS27n (io), 59 IO, LVDS26p (io), 60 IO, LVDS26n (io), 61 IO, VREF0B4 (io), 62 IO, DPCLK6 (DQS0B) (io), 67 IO, LVDS25p (DQ1B3) (io), 68 IO, LVDS25n (DQ1B2) (io), 69 IO, LVDS24p (DQ1B1) (io), 70 IO, LVDS24n (DQ1B0) (io), 71 IO, LVDS23p (io), 72 IO, LVDS23n (io)
part E pins: 13 DATA0 (in), 14 nCONFIG (in), 20 nCEO (out), 21 nCE (in), 22 MSEL0 (in), 23 MSEL1 (in), 24 DCLK (io), 86 CONF_DONE (io), 87 nSTATUS (io), 88 TCK (in), 89 TMS (in), 90 TDO (out), 95 TDI (in)
part F pins: 8 VCCIO1 (power), 29 VCCIO1 (power), 44 VCCIO4 (power), 46 VCCINT (power), 64 VCCINT (power), 66 VCCIO4 (power), 81 VCCIO3 (power), 102 VCCIO3 (power), 115 VCCIO2 (power), 117 VCCINT (power), 135 VCCINT (power), 137 VCCIO2 (power)
part G pins: 9 GND (power), 30 GND (power), 43 GND (power), 45 GND (power), 63 GND (power), 65 GND (power), 80 GND (power), 101 GND (power), 116 GND (power), 118 GND (power), 136 GND (power), 138 GND (power)
part H pins: 15 VCCA_PLL1 (power), 18 GNDA_PLL1 (power), 19 GNDG_PLL1 (power)
part I pins: 16 CLK0, LVDSCLK1p (in), 17 CLK1, LVDSCLK1n (in), 92 CLK3, LVDSCLK2n (in), 93 CLK2, LVDSCLK2p (in)
part A text: BANK 1
part B text: BANK 2
part C text: BANK 3
part D text: BANK 4

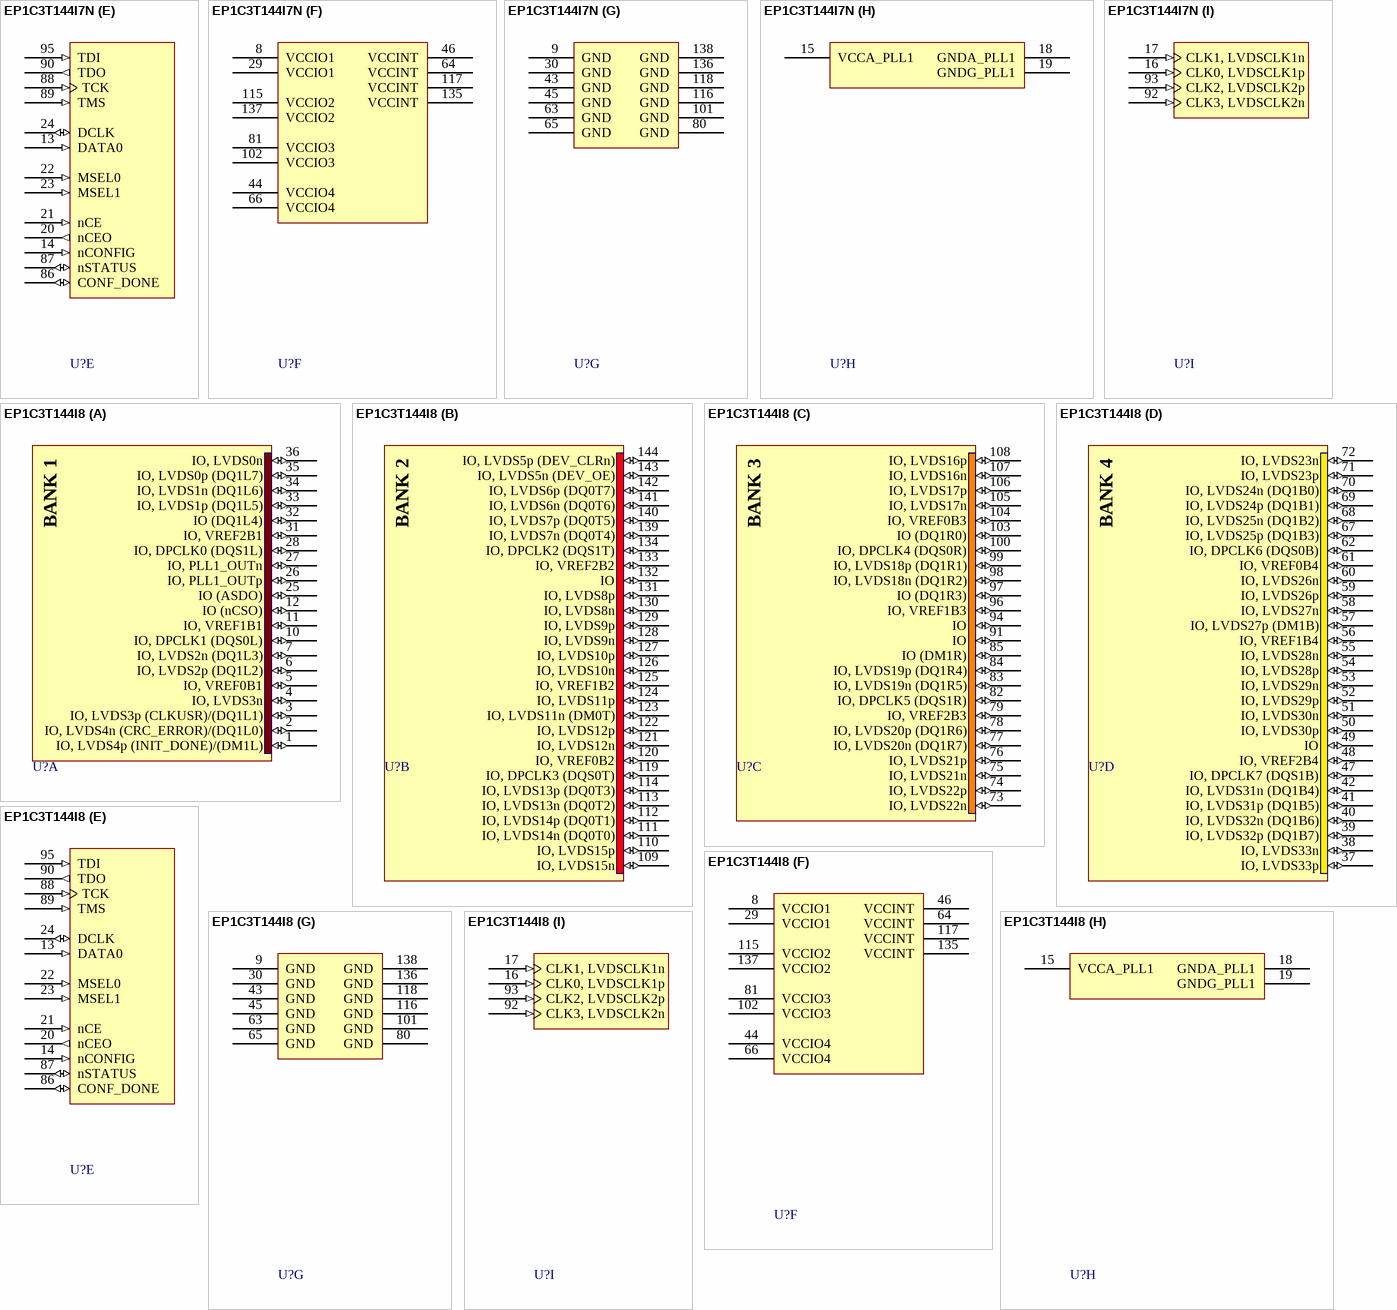
[diagram p11: symbols EP1C3T144I7N to EP1C3T144I8]

## EP1C3T144I7N
designator U?
Cyclone Family, 1.5V FPGA, 104 I/O Pins, 1 x PLL, Industrial Grade, Speed Grade 7, Pb-Free; Published: 18-Aug-2005; LatestRevisionDate: 13-Apr-2006; LatestRevisionNote: Pin 2 name fix, IPC-7351 Footprint Added.; DatasheetVersion: May-2008; PackageVersion: ver15.1, May-2008; PackageReference: TQFP144; Publisher: Altium Limited; PackageDescription: 144-Pin Plastic Thin Quad Flat Pack (TQFP144) - Wire Bond; Code_JEDEC: MS-026-BFB; ComponentLink1Description: Manufacturer Link; ComponentLink1URL: http://www.altera.com/products/devices/cyclone/cyc-index.jsp; ComponentLink2Description: Handbook; ComponentLink2URL: http://www.altera.com/literature/hb/cyc/cyc_c5v1.pdf; ComponentLink3Description: Packaging Specification; ComponentLink3URL: http://www.altera.com/literature/ds/dspkg.pdf
footprint TQFP144_N (Thin QFP, 144-Leads, Body 20x20mm, Pitch 0.5mm, IPC Medium Density)
footprint TQFP144_L (Thin QFP, 144-Leads, Body 20x20mm, Pitch 0.5mm, IPC High Density)
footprint TQFP144_M (Thin QFP, 144-Leads, Body 20x20mm, Pitch 0.5mm, IPC Low Density)
3D model EP1C3-TQFP144 (144-Pin Plastic Thin Quad Flat Pack (TQFP144) - Wire Bond)
signal-integrity model 1c (Cyclone)
part A pins: 1 IO, LVDS4p (INIT_DONE)/(DM1L) (io), 2 IO, LVDS4n (CRC_ERROR)/(DQ1L0) (io), 3 IO, LVDS3p (CLKUSR)/(DQ1L1) (io), 4 IO, LVDS3n (io), 5 IO, VREF0B1 (io), 6 IO, LVDS2p (DQ1L2) (io), 7 IO, LVDS2n (DQ1L3) (io), 10 IO, DPCLK1 (DQS0L) (io), 11 IO, VREF1B1 (io), 12 IO (nCSO) (io), 25 IO (ASDO) (io), 26 IO, PLL1_OUTp (io), 27 IO, PLL1_OUTn (io), 28 IO, DPCLK0 (DQS1L) (io), 31 IO, VREF2B1 (io), 32 IO (DQ1L4) (io), 33 IO, LVDS1p (DQ1L5) (io), 34 IO, LVDS1n (DQ1L6) (io), 35 IO, LVDS0p (DQ1L7) (io), 36 IO, LVDS0n (io)
part B pins: 109 IO, LVDS15n (io), 110 IO, LVDS15p (io), 111 IO, LVDS14n (DQ0T0) (io), 112 IO, LVDS14p (DQ0T1) (io), 113 IO, LVDS13n (DQ0T2) (io), 114 IO, LVDS13p (DQ0T3) (io), 119 IO, DPCLK3 (DQS0T) (io), 120 IO, VREF0B2 (io), 121 IO, LVDS12n (io), 122 IO, LVDS12p (io), 123 IO, LVDS11n (DM0T) (io), 124 IO, LVDS11p (io), 125 IO, VREF1B2 (io), 126 IO, LVDS10n (io), 127 IO, LVDS10p (io), 128 IO, LVDS9n (io), 129 IO, LVDS9p (io), 130 IO, LVDS8n (io), 131 IO, LVDS8p (io), 132 IO (io), 133 IO, VREF2B2 (io), 134 IO, DPCLK2 (DQS1T) (io), 139 IO, LVDS7n (DQ0T4) (io), 140 IO, LVDS7p (DQ0T5) (io), 141 IO, LVDS6n (DQ0T6) (io), 142 IO, LVDS6p (DQ0T7) (io), 143 IO, LVDS5n (DEV_OE) (io), 144 IO, LVDS5p (DEV_CLRn) (io)
part C pins: 73 IO, LVDS22n (io), 74 IO, LVDS22p (io), 75 IO, LVDS21n (io), 76 IO, LVDS21p (io), 77 IO, LVDS20n (DQ1R7) (io), 78 IO, LVDS20p (DQ1R6) (io), 79 IO, VREF2B3 (io), 82 IO, DPCLK5 (DQS1R) (io), 83 IO, LVDS19n (DQ1R5) (io), 84 IO, LVDS19p (DQ1R4) (io), 85 IO (DM1R) (io), 91 IO (io), 94 IO (io), 96 IO, VREF1B3 (io), 97 IO (DQ1R3) (io), 98 IO, LVDS18n (DQ1R2) (io), 99 IO, LVDS18p (DQ1R1) (io), 100 IO, DPCLK4 (DQS0R) (io), 103 IO (DQ1R0) (io), 104 IO, VREF0B3 (io), 105 IO, LVDS17n (io), 106 IO, LVDS17p (io), 107 IO, LVDS16n (io), 108 IO, LVDS16p (io)
part D pins: 37 IO, LVDS33p (io), 38 IO, LVDS33n (io), 39 IO, LVDS32p (DQ1B7) (io), 40 IO, LVDS32n (DQ1B6) (io), 41 IO, LVDS31p (DQ1B5) (io), 42 IO, LVDS31n (DQ1B4) (io), 47 IO, DPCLK7 (DQS1B) (io), 48 IO, VREF2B4 (io), 49 IO (io), 50 IO, LVDS30p (io), 51 IO, LVDS30n (io), 52 IO, LVDS29p (io), 53 IO, LVDS29n (io), 54 IO, LVDS28p (io), 55 IO, LVDS28n (io), 56 IO, VREF1B4 (io), 57 IO, LVDS27p (DM1B) (io), 58 IO, LVDS27n (io), 59 IO, LVDS26p (io), 60 IO, LVDS26n (io), 61 IO, VREF0B4 (io), 62 IO, DPCLK6 (DQS0B) (io), 67 IO, LVDS25p (DQ1B3) (io), 68 IO, LVDS25n (DQ1B2) (io), 69 IO, LVDS24p (DQ1B1) (io), 70 IO, LVDS24n (DQ1B0) (io), 71 IO, LVDS23p (io), 72 IO, LVDS23n (io)
part E pins: 13 DATA0 (in), 14 nCONFIG (in), 20 nCEO (out), 21 nCE (in), 22 MSEL0 (in), 23 MSEL1 (in), 24 DCLK (io), 86 CONF_DONE (io), 87 nSTATUS (io), 88 TCK (in), 89 TMS (in), 90 TDO (out), 95 TDI (in)
part F pins: 8 VCCIO1 (power), 29 VCCIO1 (power), 44 VCCIO4 (power), 46 VCCINT (power), 64 VCCINT (power), 66 VCCIO4 (power), 81 VCCIO3 (power), 102 VCCIO3 (power), 115 VCCIO2 (power), 117 VCCINT (power), 135 VCCINT (power), 137 VCCIO2 (power)
part G pins: 9 GND (power), 30 GND (power), 43 GND (power), 45 GND (power), 63 GND (power), 65 GND (power), 80 GND (power), 101 GND (power), 116 GND (power), 118 GND (power), 136 GND (power), 138 GND (power)
part H pins: 15 VCCA_PLL1 (power), 18 GNDA_PLL1 (power), 19 GNDG_PLL1 (power)
part I pins: 16 CLK0, LVDSCLK1p (in), 17 CLK1, LVDSCLK1n (in), 92 CLK3, LVDSCLK2n (in), 93 CLK2, LVDSCLK2p (in)
part A text: BANK 1
part B text: BANK 2
part C text: BANK 3
part D text: BANK 4

## EP1C3T144I8
designator U?
Cyclone Family, 1.5V FPGA, 104 I/O Pins, 1 x PLL, Industrial Grade, Speed Grade 8; Published: 17-Sep-2003; LatestRevisionDate: 13-Apr-2006; LatestRevisionNote: Pin 2 name fix, IPC-7351 Footprint Added.; DatasheetVersion: May-2008; PackageVersion: ver15.1, May-2008; PackageReference: TQFP144; Publisher: Altium Limited; PackageDescription: 144-Pin Plastic Thin Quad Flat Pack (TQFP144) - Wire Bond; Code_JEDEC: MS-026-BFB; ComponentLink1Description: Manufacturer Link; ComponentLink1URL: http://www.altera.com/products/devices/cyclone/cyc-index.jsp; ComponentLink2Description: Handbook; ComponentLink2URL: http://www.altera.com/literature/hb/cyc/cyc_c5v1.pdf; ComponentLink3Description: Packaging Specification; ComponentLink3URL: http://www.altera.com/literature/ds/dspkg.pdf
footprint TQFP144_N (Thin QFP, 144-Leads, Body 20x20mm, Pitch 0.5mm, IPC Medium Density)
footprint TQFP144_L (Thin QFP, 144-Leads, Body 20x20mm, Pitch 0.5mm, IPC High Density)
footprint TQFP144_M (Thin QFP, 144-Leads, Body 20x20mm, Pitch 0.5mm, IPC Low Density)
3D model EP1C3-TQFP144 (144-Pin Plastic Thin Quad Flat Pack (TQFP144) - Wire Bond)
signal-integrity model 1c (Cyclone)
part A pins: 1 IO, LVDS4p (INIT_DONE)/(DM1L) (io), 2 IO, LVDS4n (CRC_ERROR)/(DQ1L0) (io), 3 IO, LVDS3p (CLKUSR)/(DQ1L1) (io), 4 IO, LVDS3n (io), 5 IO, VREF0B1 (io), 6 IO, LVDS2p (DQ1L2) (io), 7 IO, LVDS2n (DQ1L3) (io), 10 IO, DPCLK1 (DQS0L) (io), 11 IO, VREF1B1 (io), 12 IO (nCSO) (io), 25 IO (ASDO) (io), 26 IO, PLL1_OUTp (io), 27 IO, PLL1_OUTn (io), 28 IO, DPCLK0 (DQS1L) (io), 31 IO, VREF2B1 (io), 32 IO (DQ1L4) (io), 33 IO, LVDS1p (DQ1L5) (io), 34 IO, LVDS1n (DQ1L6) (io), 35 IO, LVDS0p (DQ1L7) (io), 36 IO, LVDS0n (io)
part B pins: 109 IO, LVDS15n (io), 110 IO, LVDS15p (io), 111 IO, LVDS14n (DQ0T0) (io), 112 IO, LVDS14p (DQ0T1) (io), 113 IO, LVDS13n (DQ0T2) (io), 114 IO, LVDS13p (DQ0T3) (io), 119 IO, DPCLK3 (DQS0T) (io), 120 IO, VREF0B2 (io), 121 IO, LVDS12n (io), 122 IO, LVDS12p (io), 123 IO, LVDS11n (DM0T) (io), 124 IO, LVDS11p (io), 125 IO, VREF1B2 (io), 126 IO, LVDS10n (io), 127 IO, LVDS10p (io), 128 IO, LVDS9n (io), 129 IO, LVDS9p (io), 130 IO, LVDS8n (io), 131 IO, LVDS8p (io), 132 IO (io), 133 IO, VREF2B2 (io), 134 IO, DPCLK2 (DQS1T) (io), 139 IO, LVDS7n (DQ0T4) (io), 140 IO, LVDS7p (DQ0T5) (io), 141 IO, LVDS6n (DQ0T6) (io), 142 IO, LVDS6p (DQ0T7) (io), 143 IO, LVDS5n (DEV_OE) (io), 144 IO, LVDS5p (DEV_CLRn) (io)
part C pins: 73 IO, LVDS22n (io), 74 IO, LVDS22p (io), 75 IO, LVDS21n (io), 76 IO, LVDS21p (io), 77 IO, LVDS20n (DQ1R7) (io), 78 IO, LVDS20p (DQ1R6) (io), 79 IO, VREF2B3 (io), 82 IO, DPCLK5 (DQS1R) (io), 83 IO, LVDS19n (DQ1R5) (io), 84 IO, LVDS19p (DQ1R4) (io), 85 IO (DM1R) (io), 91 IO (io), 94 IO (io), 96 IO, VREF1B3 (io), 97 IO (DQ1R3) (io), 98 IO, LVDS18n (DQ1R2) (io), 99 IO, LVDS18p (DQ1R1) (io), 100 IO, DPCLK4 (DQS0R) (io), 103 IO (DQ1R0) (io), 104 IO, VREF0B3 (io), 105 IO, LVDS17n (io), 106 IO, LVDS17p (io), 107 IO, LVDS16n (io), 108 IO, LVDS16p (io)
part D pins: 37 IO, LVDS33p (io), 38 IO, LVDS33n (io), 39 IO, LVDS32p (DQ1B7) (io), 40 IO, LVDS32n (DQ1B6) (io), 41 IO, LVDS31p (DQ1B5) (io), 42 IO, LVDS31n (DQ1B4) (io), 47 IO, DPCLK7 (DQS1B) (io), 48 IO, VREF2B4 (io), 49 IO (io), 50 IO, LVDS30p (io), 51 IO, LVDS30n (io), 52 IO, LVDS29p (io), 53 IO, LVDS29n (io), 54 IO, LVDS28p (io), 55 IO, LVDS28n (io), 56 IO, VREF1B4 (io), 57 IO, LVDS27p (DM1B) (io), 58 IO, LVDS27n (io), 59 IO, LVDS26p (io), 60 IO, LVDS26n (io), 61 IO, VREF0B4 (io), 62 IO, DPCLK6 (DQS0B) (io), 67 IO, LVDS25p (DQ1B3) (io), 68 IO, LVDS25n (DQ1B2) (io), 69 IO, LVDS24p (DQ1B1) (io), 70 IO, LVDS24n (DQ1B0) (io), 71 IO, LVDS23p (io), 72 IO, LVDS23n (io)
part E pins: 13 DATA0 (in), 14 nCONFIG (in), 20 nCEO (out), 21 nCE (in), 22 MSEL0 (in), 23 MSEL1 (in), 24 DCLK (io), 86 CONF_DONE (io), 87 nSTATUS (io), 88 TCK (in), 89 TMS (in), 90 TDO (out), 95 TDI (in)
part F pins: 8 VCCIO1 (power), 29 VCCIO1 (power), 44 VCCIO4 (power), 46 VCCINT (power), 64 VCCINT (power), 66 VCCIO4 (power), 81 VCCIO3 (power), 102 VCCIO3 (power), 115 VCCIO2 (power), 117 VCCINT (power), 135 VCCINT (power), 137 VCCIO2 (power)
part G pins: 9 GND (power), 30 GND (power), 43 GND (power), 45 GND (power), 63 GND (power), 65 GND (power), 80 GND (power), 101 GND (power), 116 GND (power), 118 GND (power), 136 GND (power), 138 GND (power)
part H pins: 15 VCCA_PLL1 (power), 18 GNDA_PLL1 (power), 19 GNDG_PLL1 (power)
part I pins: 16 CLK0, LVDSCLK1p (in), 17 CLK1, LVDSCLK1n (in), 92 CLK3, LVDSCLK2n (in), 93 CLK2, LVDSCLK2p (in)
part A text: BANK 1
part B text: BANK 2
part C text: BANK 3
part D text: BANK 4

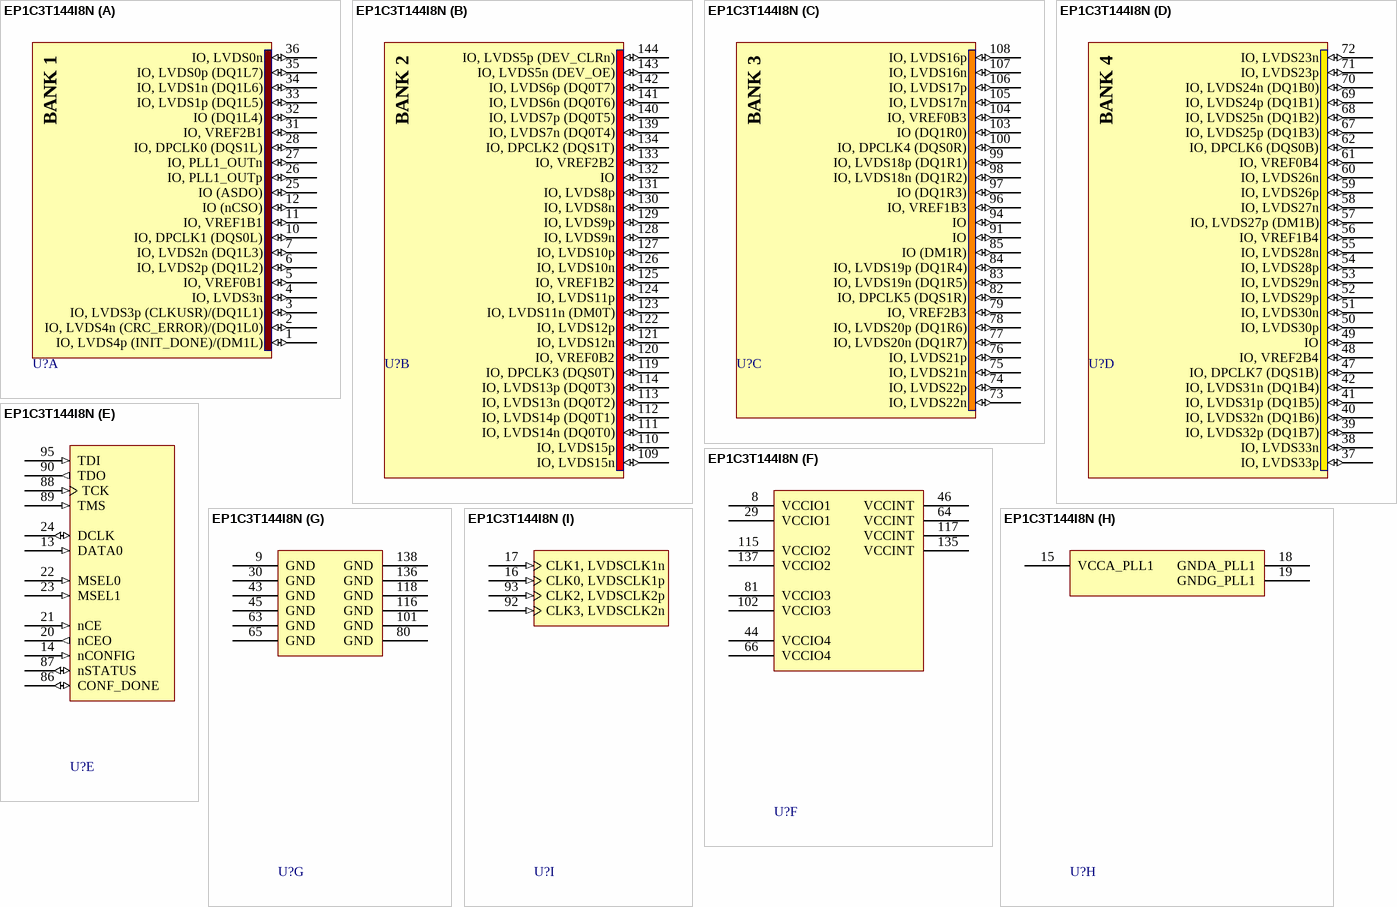
[diagram p12: symbol EP1C3T144I8N]

## EP1C3T144I8N
designator U?
Cyclone Family, 1.5V FPGA, 104 I/O Pins, 1 x PLL, Industrial Grade, Speed Grade 8, Pb-Free; Published: 18-Aug-2005; LatestRevisionDate: 13-Apr-2006; LatestRevisionNote: Pin 2 name fix, IPC-7351 Footprint Added.; DatasheetVersion: May-2008; PackageVersion: ver15.1, May-2008; PackageReference: TQFP144; Publisher: Altium Limited; PackageDescription: 144-Pin Plastic Thin Quad Flat Pack (TQFP144) - Wire Bond; Code_JEDEC: MS-026-BFB; ComponentLink1Description: Manufacturer Link; ComponentLink1URL: http://www.altera.com/products/devices/cyclone/cyc-index.jsp; ComponentLink2Description: Handbook; ComponentLink2URL: http://www.altera.com/literature/hb/cyc/cyc_c5v1.pdf; ComponentLink3Description: Packaging Specification; ComponentLink3URL: http://www.altera.com/literature/ds/dspkg.pdf
footprint TQFP144_N (Thin QFP, 144-Leads, Body 20x20mm, Pitch 0.5mm, IPC Medium Density)
footprint TQFP144_L (Thin QFP, 144-Leads, Body 20x20mm, Pitch 0.5mm, IPC High Density)
footprint TQFP144_M (Thin QFP, 144-Leads, Body 20x20mm, Pitch 0.5mm, IPC Low Density)
3D model EP1C3-TQFP144 (144-Pin Plastic Thin Quad Flat Pack (TQFP144) - Wire Bond)
signal-integrity model 1c (Cyclone)
part A pins: 1 IO, LVDS4p (INIT_DONE)/(DM1L) (io), 2 IO, LVDS4n (CRC_ERROR)/(DQ1L0) (io), 3 IO, LVDS3p (CLKUSR)/(DQ1L1) (io), 4 IO, LVDS3n (io), 5 IO, VREF0B1 (io), 6 IO, LVDS2p (DQ1L2) (io), 7 IO, LVDS2n (DQ1L3) (io), 10 IO, DPCLK1 (DQS0L) (io), 11 IO, VREF1B1 (io), 12 IO (nCSO) (io), 25 IO (ASDO) (io), 26 IO, PLL1_OUTp (io), 27 IO, PLL1_OUTn (io), 28 IO, DPCLK0 (DQS1L) (io), 31 IO, VREF2B1 (io), 32 IO (DQ1L4) (io), 33 IO, LVDS1p (DQ1L5) (io), 34 IO, LVDS1n (DQ1L6) (io), 35 IO, LVDS0p (DQ1L7) (io), 36 IO, LVDS0n (io)
part B pins: 109 IO, LVDS15n (io), 110 IO, LVDS15p (io), 111 IO, LVDS14n (DQ0T0) (io), 112 IO, LVDS14p (DQ0T1) (io), 113 IO, LVDS13n (DQ0T2) (io), 114 IO, LVDS13p (DQ0T3) (io), 119 IO, DPCLK3 (DQS0T) (io), 120 IO, VREF0B2 (io), 121 IO, LVDS12n (io), 122 IO, LVDS12p (io), 123 IO, LVDS11n (DM0T) (io), 124 IO, LVDS11p (io), 125 IO, VREF1B2 (io), 126 IO, LVDS10n (io), 127 IO, LVDS10p (io), 128 IO, LVDS9n (io), 129 IO, LVDS9p (io), 130 IO, LVDS8n (io), 131 IO, LVDS8p (io), 132 IO (io), 133 IO, VREF2B2 (io), 134 IO, DPCLK2 (DQS1T) (io), 139 IO, LVDS7n (DQ0T4) (io), 140 IO, LVDS7p (DQ0T5) (io), 141 IO, LVDS6n (DQ0T6) (io), 142 IO, LVDS6p (DQ0T7) (io), 143 IO, LVDS5n (DEV_OE) (io), 144 IO, LVDS5p (DEV_CLRn) (io)
part C pins: 73 IO, LVDS22n (io), 74 IO, LVDS22p (io), 75 IO, LVDS21n (io), 76 IO, LVDS21p (io), 77 IO, LVDS20n (DQ1R7) (io), 78 IO, LVDS20p (DQ1R6) (io), 79 IO, VREF2B3 (io), 82 IO, DPCLK5 (DQS1R) (io), 83 IO, LVDS19n (DQ1R5) (io), 84 IO, LVDS19p (DQ1R4) (io), 85 IO (DM1R) (io), 91 IO (io), 94 IO (io), 96 IO, VREF1B3 (io), 97 IO (DQ1R3) (io), 98 IO, LVDS18n (DQ1R2) (io), 99 IO, LVDS18p (DQ1R1) (io), 100 IO, DPCLK4 (DQS0R) (io), 103 IO (DQ1R0) (io), 104 IO, VREF0B3 (io), 105 IO, LVDS17n (io), 106 IO, LVDS17p (io), 107 IO, LVDS16n (io), 108 IO, LVDS16p (io)
part D pins: 37 IO, LVDS33p (io), 38 IO, LVDS33n (io), 39 IO, LVDS32p (DQ1B7) (io), 40 IO, LVDS32n (DQ1B6) (io), 41 IO, LVDS31p (DQ1B5) (io), 42 IO, LVDS31n (DQ1B4) (io), 47 IO, DPCLK7 (DQS1B) (io), 48 IO, VREF2B4 (io), 49 IO (io), 50 IO, LVDS30p (io), 51 IO, LVDS30n (io), 52 IO, LVDS29p (io), 53 IO, LVDS29n (io), 54 IO, LVDS28p (io), 55 IO, LVDS28n (io), 56 IO, VREF1B4 (io), 57 IO, LVDS27p (DM1B) (io), 58 IO, LVDS27n (io), 59 IO, LVDS26p (io), 60 IO, LVDS26n (io), 61 IO, VREF0B4 (io), 62 IO, DPCLK6 (DQS0B) (io), 67 IO, LVDS25p (DQ1B3) (io), 68 IO, LVDS25n (DQ1B2) (io), 69 IO, LVDS24p (DQ1B1) (io), 70 IO, LVDS24n (DQ1B0) (io), 71 IO, LVDS23p (io), 72 IO, LVDS23n (io)
part E pins: 13 DATA0 (in), 14 nCONFIG (in), 20 nCEO (out), 21 nCE (in), 22 MSEL0 (in), 23 MSEL1 (in), 24 DCLK (io), 86 CONF_DONE (io), 87 nSTATUS (io), 88 TCK (in), 89 TMS (in), 90 TDO (out), 95 TDI (in)
part F pins: 8 VCCIO1 (power), 29 VCCIO1 (power), 44 VCCIO4 (power), 46 VCCINT (power), 64 VCCINT (power), 66 VCCIO4 (power), 81 VCCIO3 (power), 102 VCCIO3 (power), 115 VCCIO2 (power), 117 VCCINT (power), 135 VCCINT (power), 137 VCCIO2 (power)
part G pins: 9 GND (power), 30 GND (power), 43 GND (power), 45 GND (power), 63 GND (power), 65 GND (power), 80 GND (power), 101 GND (power), 116 GND (power), 118 GND (power), 136 GND (power), 138 GND (power)
part H pins: 15 VCCA_PLL1 (power), 18 GNDA_PLL1 (power), 19 GNDG_PLL1 (power)
part I pins: 16 CLK0, LVDSCLK1p (in), 17 CLK1, LVDSCLK1n (in), 92 CLK3, LVDSCLK2n (in), 93 CLK2, LVDSCLK2p (in)
part A text: BANK 1
part B text: BANK 2
part C text: BANK 3
part D text: BANK 4

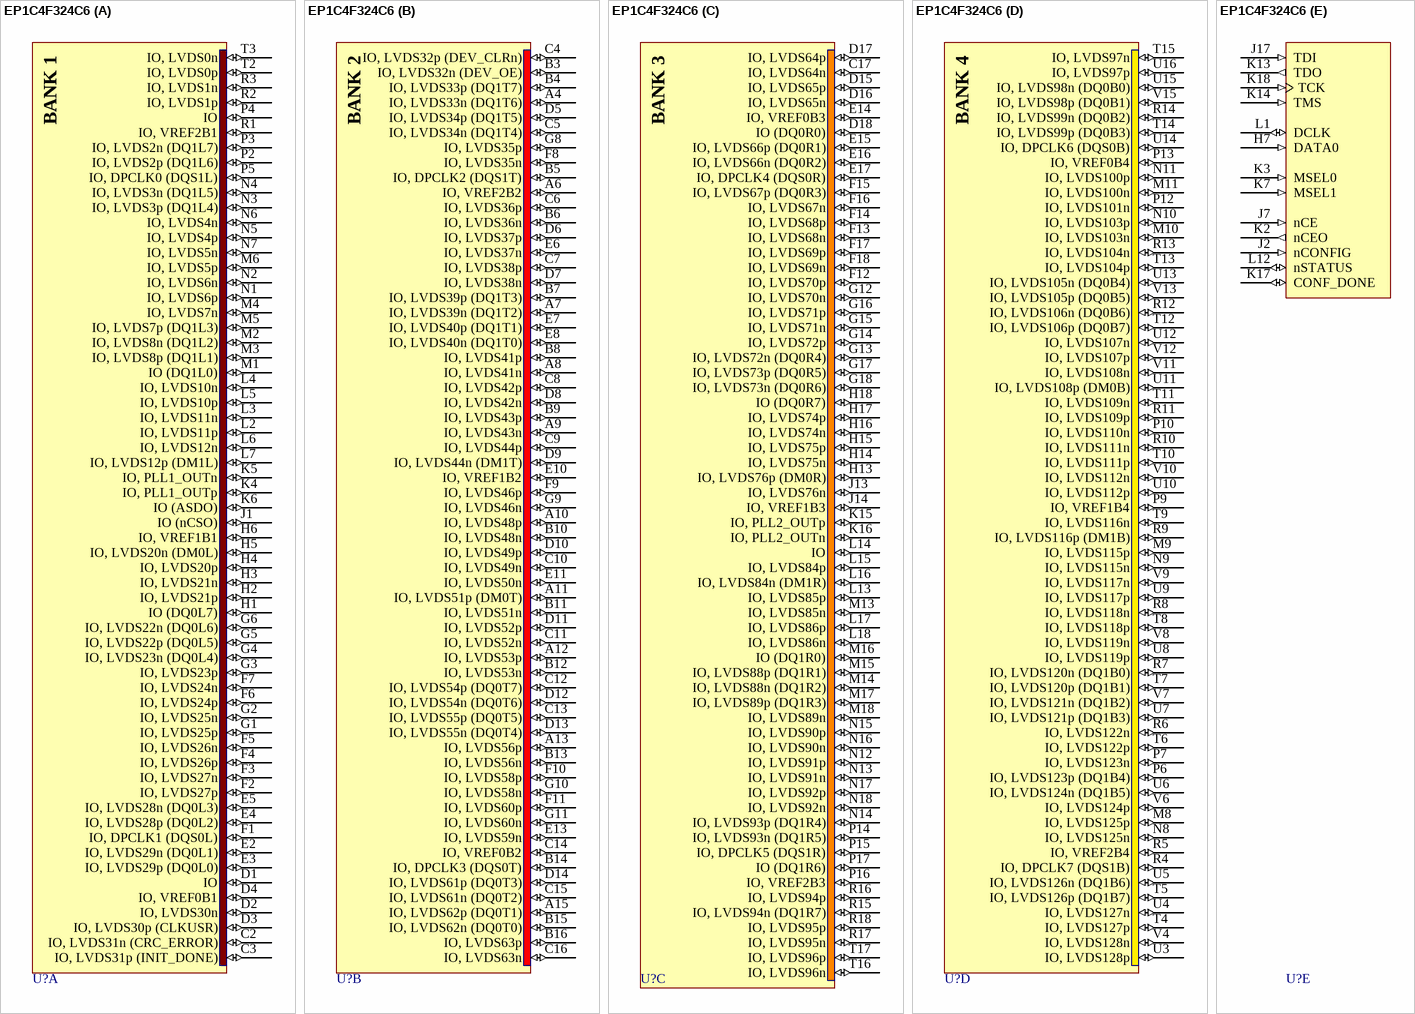
[diagram p13: symbol EP1C4F324C6]

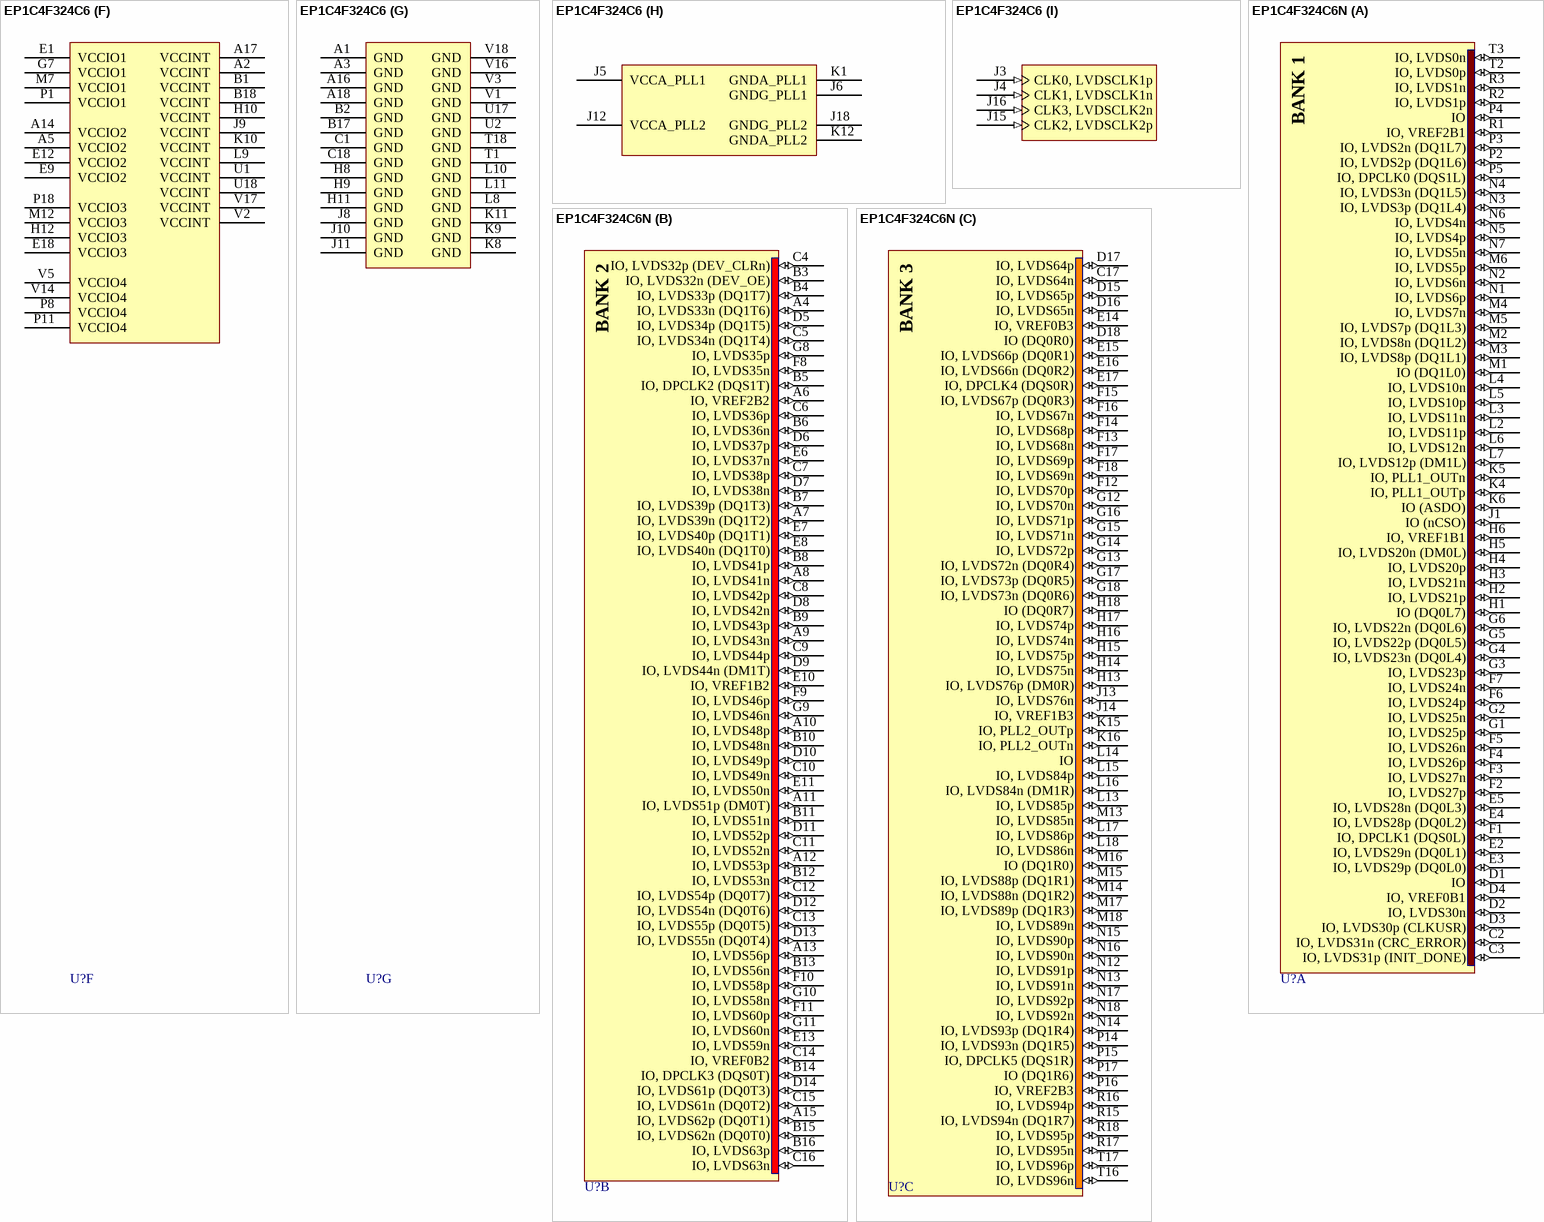
[diagram p14: symbols EP1C4F324C6 to EP1C4F324C6N]